# Altium integrated library Altera MAX 7000S.IntLib: 338 symbols (part 6 of 20)
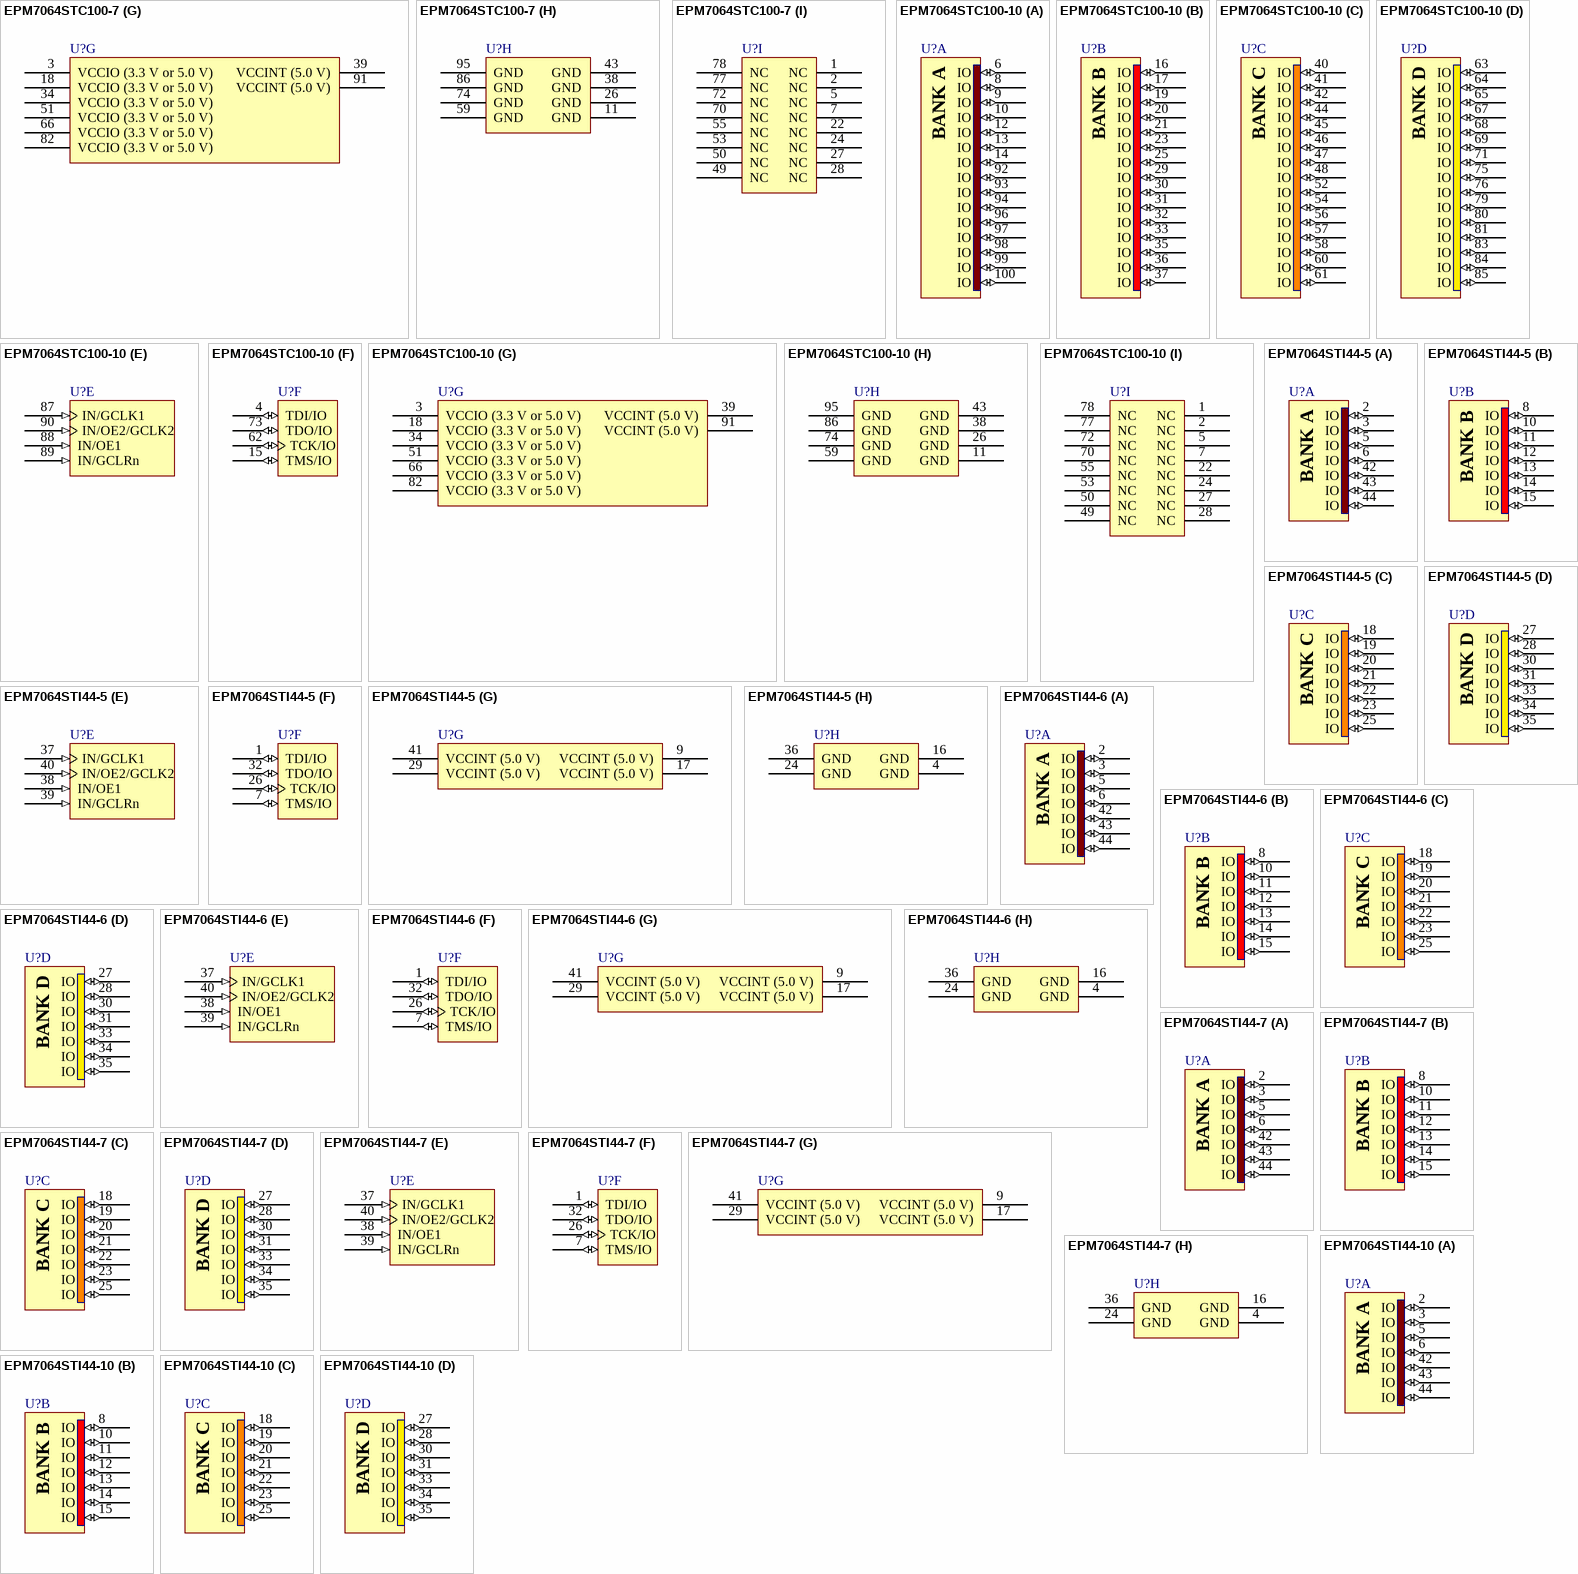
[diagram p109: symbols EPM7064STC100-7 to EPM7064STI44-10]

## EPM7064STC100-7
designator U?
MAX 7000S 5V In-System Programmable CPLD, 64 Macrocells, 100-Pin TQFP, Speed Grade 7, Commercial Grade; Published: 17-Jul-2002; LatestRevisionDate: 13-Apr-2006; LatestRevisionNote: IPC-7351 Footprint Added.; DatasheetVersion: ver6.7, Sep-2005; PackageVersion: ver15.1, May-2008; PackageReference: TQFP100; Publisher: Altium Limited; PackageDescription: 100-Pin Plastic Thin Quad Flat Pack (TQFP100) - Wire Bond; Supplier 1: Digi-Key; Supplier Part Number 1: 544-2312-ND; Code_JEDEC: MS-026-AED; ComponentLink1Description: Manufacturer Link; ComponentLink1URL: http://www.altera.com/products/devices/max7k/m7k-index.html; ComponentLink2Description: Datasheet; ComponentLink2URL: http://www.altera.com/literature/ds/m7000.pdf; ComponentLink3Description: Packaging Specification; ComponentLink3URL: http://www.altera.com/literature/ds/dspkg.pdf
footprint TQFP100_N (Thin QFP, 100-Leads, Body 14x14mm, Pitch 0.5mm, IPC Medium Density)
footprint TQFP100_L (Thin QFP, 100-Leads, Body 14x14mm, Pitch 0.5mm, IPC High Density)
footprint TQFP100_M (Thin QFP, 100-Leads, Body 14x14mm, Pitch 0.5mm, IPC Low Density)
3D model EPM7064S-TQFP100 (100-Pin Plastic Thin Quad Flat Pack (TQFP100) - Wire Bond)
signal-integrity model 7k (MAX 7000S)
part A pins: 6 IO (io), 8 IO (io), 9 IO (io), 10 IO (io), 12 IO (io), 13 IO (io), 14 IO (io), 92 IO (io), 93 IO (io), 94 IO (io), 96 IO (io), 97 IO (io), 98 IO (io), 99 IO (io), 100 IO (io)
part B pins: 16 IO (io), 17 IO (io), 19 IO (io), 20 IO (io), 21 IO (io), 23 IO (io), 25 IO (io), 29 IO (io), 30 IO (io), 31 IO (io), 32 IO (io), 33 IO (io), 35 IO (io), 36 IO (io), 37 IO (io)
part C pins: 40 IO (io), 41 IO (io), 42 IO (io), 44 IO (io), 45 IO (io), 46 IO (io), 47 IO (io), 48 IO (io), 52 IO (io), 54 IO (io), 56 IO (io), 57 IO (io), 58 IO (io), 60 IO (io), 61 IO (io)
part D pins: 63 IO (io), 64 IO (io), 65 IO (io), 67 IO (io), 68 IO (io), 69 IO (io), 71 IO (io), 75 IO (io), 76 IO (io), 79 IO (io), 80 IO (io), 81 IO (io), 83 IO (io), 84 IO (io), 85 IO (io)
part E pins: 87 IN/GCLK1 (in), 88 IN/OE1 (in), 89 IN/GCLRn (in), 90 IN/OE2/GCLK2 (in)
part F pins: 4 TDI/IO (io), 15 TMS/IO (io), 62 TCK/IO (io), 73 TDO/IO (io)
part G pins: 3 VCCIO (3.3 V or 5.0 V) (power), 18 VCCIO (3.3 V or 5.0 V) (power), 34 VCCIO (3.3 V or 5.0 V) (power), 39 VCCINT (5.0 V) (power), 51 VCCIO (3.3 V or 5.0 V) (power), 66 VCCIO (3.3 V or 5.0 V) (power), 82 VCCIO (3.3 V or 5.0 V) (power), 91 VCCINT (5.0 V) (power)
part H pins: 11 GND (power), 26 GND (power), 38 GND (power), 43 GND (power), 59 GND (power), 74 GND (power), 86 GND (power), 95 GND (power)
part I pins: 1 NC, 2 NC, 5 NC, 7 NC, 22 NC, 24 NC, 27 NC, 28 NC, 49 NC, 50 NC, 53 NC, 55 NC, 70 NC, 72 NC, 77 NC, 78 NC
part A text: BANK A
part B text: BANK B
part C text: BANK C
part D text: BANK D

## EPM7064STC100-10
designator U?
MAX 7000S 5V In-System Programmable CPLD, 64 Macrocells, 100-Pin TQFP, Speed Grade 10, Commercial Grade; Published: 17-Jul-2002; LatestRevisionDate: 13-Apr-2006; LatestRevisionNote: IPC-7351 Footprint Added.; DatasheetVersion: ver6.7, Sep-2005; PackageVersion: ver15.1, May-2008; PackageReference: TQFP100; Publisher: Altium Limited; PackageDescription: 100-Pin Plastic Thin Quad Flat Pack (TQFP100) - Wire Bond; Supplier 1: Digi-Key; Supplier Part Number 1: 544-1199-ND; Code_JEDEC: MS-026-AED; ComponentLink1Description: Manufacturer Link; ComponentLink1URL: http://www.altera.com/products/devices/max7k/m7k-index.html; ComponentLink2Description: Datasheet; ComponentLink2URL: http://www.altera.com/literature/ds/m7000.pdf; ComponentLink3Description: Packaging Specification; ComponentLink3URL: http://www.altera.com/literature/ds/dspkg.pdf
footprint TQFP100_N (Thin QFP, 100-Leads, Body 14x14mm, Pitch 0.5mm, IPC Medium Density)
footprint TQFP100_L (Thin QFP, 100-Leads, Body 14x14mm, Pitch 0.5mm, IPC High Density)
footprint TQFP100_M (Thin QFP, 100-Leads, Body 14x14mm, Pitch 0.5mm, IPC Low Density)
3D model EPM7064S-TQFP100 (100-Pin Plastic Thin Quad Flat Pack (TQFP100) - Wire Bond)
signal-integrity model 7k (MAX 7000S)
part A pins: 6 IO (io), 8 IO (io), 9 IO (io), 10 IO (io), 12 IO (io), 13 IO (io), 14 IO (io), 92 IO (io), 93 IO (io), 94 IO (io), 96 IO (io), 97 IO (io), 98 IO (io), 99 IO (io), 100 IO (io)
part B pins: 16 IO (io), 17 IO (io), 19 IO (io), 20 IO (io), 21 IO (io), 23 IO (io), 25 IO (io), 29 IO (io), 30 IO (io), 31 IO (io), 32 IO (io), 33 IO (io), 35 IO (io), 36 IO (io), 37 IO (io)
part C pins: 40 IO (io), 41 IO (io), 42 IO (io), 44 IO (io), 45 IO (io), 46 IO (io), 47 IO (io), 48 IO (io), 52 IO (io), 54 IO (io), 56 IO (io), 57 IO (io), 58 IO (io), 60 IO (io), 61 IO (io)
part D pins: 63 IO (io), 64 IO (io), 65 IO (io), 67 IO (io), 68 IO (io), 69 IO (io), 71 IO (io), 75 IO (io), 76 IO (io), 79 IO (io), 80 IO (io), 81 IO (io), 83 IO (io), 84 IO (io), 85 IO (io)
part E pins: 87 IN/GCLK1 (in), 88 IN/OE1 (in), 89 IN/GCLRn (in), 90 IN/OE2/GCLK2 (in)
part F pins: 4 TDI/IO (io), 15 TMS/IO (io), 62 TCK/IO (io), 73 TDO/IO (io)
part G pins: 3 VCCIO (3.3 V or 5.0 V) (power), 18 VCCIO (3.3 V or 5.0 V) (power), 34 VCCIO (3.3 V or 5.0 V) (power), 39 VCCINT (5.0 V) (power), 51 VCCIO (3.3 V or 5.0 V) (power), 66 VCCIO (3.3 V or 5.0 V) (power), 82 VCCIO (3.3 V or 5.0 V) (power), 91 VCCINT (5.0 V) (power)
part H pins: 11 GND (power), 26 GND (power), 38 GND (power), 43 GND (power), 59 GND (power), 74 GND (power), 86 GND (power), 95 GND (power)
part I pins: 1 NC, 2 NC, 5 NC, 7 NC, 22 NC, 24 NC, 27 NC, 28 NC, 49 NC, 50 NC, 53 NC, 55 NC, 70 NC, 72 NC, 77 NC, 78 NC
part A text: BANK A
part B text: BANK B
part C text: BANK C
part D text: BANK D

## EPM7064STI44-5
designator U?
MAX 7000S 5V In-System Programmable CPLD, 64 Macrocells, 44-Pin TQFP, Speed Grade 5, Industrial Grade; Published: 17-Sep-2003; LatestRevisionDate: 13-Apr-2006; LatestRevisionNote: IPC-7351 Footprint Added.; DatasheetVersion: ver6.7, Sep-2005; PackageVersion: ver14.3, Jul-2006; PackageReference: TQFP44; Publisher: Altium Limited; PackageDescription: 44-Pin Plastic Thin Quad Flat Pack (TFQP44); Code_JEDEC: MS-026-ACB; ComponentLink1Description: Manufacturer Link; ComponentLink1URL: http://www.altera.com/products/devices/max7k/m7k-index.html; ComponentLink2Description: Datasheet; ComponentLink2URL: http://www.altera.com/literature/ds/m7000.pdf; ComponentLink3Description: Packaging Specification; ComponentLink3URL: http://www.altera.com/literature/ds/dspkg.pdf
footprint TQFP44_N (Thin QFP, 44-Leads, Body 10x10mm, Pitch 0.8mm, IPC Medium Density)
footprint TQFP44_L (Thin QFP, 44-Leads, Body 10x10mm, Pitch 0.8mm, IPC High Density)
footprint TQFP44_M (Thin QFP, 44-Leads, Body 10x10mm, Pitch 0.8mm, IPC Low Density)
3D model EPM7064S-TQFP44 (44-Pin Plastic Thin Quad Flat Pack (TFQP44))
signal-integrity model 7k (MAX 7000S)
part A pins: 2 IO (io), 3 IO (io), 5 IO (io), 6 IO (io), 42 IO (io), 43 IO (io), 44 IO (io)
part B pins: 8 IO (io), 10 IO (io), 11 IO (io), 12 IO (io), 13 IO (io), 14 IO (io), 15 IO (io)
part C pins: 18 IO (io), 19 IO (io), 20 IO (io), 21 IO (io), 22 IO (io), 23 IO (io), 25 IO (io)
part D pins: 27 IO (io), 28 IO (io), 30 IO (io), 31 IO (io), 33 IO (io), 34 IO (io), 35 IO (io)
part E pins: 37 IN/GCLK1 (in), 38 IN/OE1 (in), 39 IN/GCLRn (in), 40 IN/OE2/GCLK2 (in)
part F pins: 1 TDI/IO (io), 7 TMS/IO (io), 26 TCK/IO (io), 32 TDO/IO (io)
part G pins: 9 VCCINT (5.0 V) (power), 17 VCCINT (5.0 V) (power), 29 VCCINT (5.0 V) (power), 41 VCCINT (5.0 V) (power)
part H pins: 4 GND (power), 16 GND (power), 24 GND (power), 36 GND (power)
part A text: BANK A
part B text: BANK B
part C text: BANK C
part D text: BANK D

## EPM7064STI44-6
designator U?
MAX 7000S 5V In-System Programmable CPLD, 64 Macrocells, 44-Pin TQFP, Speed Grade 6, Industrial Grade; Published: 17-Sep-2003; LatestRevisionDate: 13-Apr-2006; LatestRevisionNote: IPC-7351 Footprint Added.; DatasheetVersion: ver6.7, Sep-2005; PackageVersion: ver14.3, Jul-2006; PackageReference: TQFP44; Publisher: Altium Limited; PackageDescription: 44-Pin Plastic Thin Quad Flat Pack (TFQP44); Code_JEDEC: MS-026-ACB; ComponentLink1Description: Manufacturer Link; ComponentLink1URL: http://www.altera.com/products/devices/max7k/m7k-index.html; ComponentLink2Description: Datasheet; ComponentLink2URL: http://www.altera.com/literature/ds/m7000.pdf; ComponentLink3Description: Packaging Specification; ComponentLink3URL: http://www.altera.com/literature/ds/dspkg.pdf
footprint TQFP44_N (Thin QFP, 44-Leads, Body 10x10mm, Pitch 0.8mm, IPC Medium Density)
footprint TQFP44_L (Thin QFP, 44-Leads, Body 10x10mm, Pitch 0.8mm, IPC High Density)
footprint TQFP44_M (Thin QFP, 44-Leads, Body 10x10mm, Pitch 0.8mm, IPC Low Density)
3D model EPM7064S-TQFP44 (44-Pin Plastic Thin Quad Flat Pack (TFQP44))
signal-integrity model 7k (MAX 7000S)
part A pins: 2 IO (io), 3 IO (io), 5 IO (io), 6 IO (io), 42 IO (io), 43 IO (io), 44 IO (io)
part B pins: 8 IO (io), 10 IO (io), 11 IO (io), 12 IO (io), 13 IO (io), 14 IO (io), 15 IO (io)
part C pins: 18 IO (io), 19 IO (io), 20 IO (io), 21 IO (io), 22 IO (io), 23 IO (io), 25 IO (io)
part D pins: 27 IO (io), 28 IO (io), 30 IO (io), 31 IO (io), 33 IO (io), 34 IO (io), 35 IO (io)
part E pins: 37 IN/GCLK1 (in), 38 IN/OE1 (in), 39 IN/GCLRn (in), 40 IN/OE2/GCLK2 (in)
part F pins: 1 TDI/IO (io), 7 TMS/IO (io), 26 TCK/IO (io), 32 TDO/IO (io)
part G pins: 9 VCCINT (5.0 V) (power), 17 VCCINT (5.0 V) (power), 29 VCCINT (5.0 V) (power), 41 VCCINT (5.0 V) (power)
part H pins: 4 GND (power), 16 GND (power), 24 GND (power), 36 GND (power)
part A text: BANK A
part B text: BANK B
part C text: BANK C
part D text: BANK D

## EPM7064STI44-7
designator U?
MAX 7000S 5V In-System Programmable CPLD, 64 Macrocells, 44-Pin TQFP, Speed Grade 7, Industrial Grade; Published: 17-Jul-2002; LatestRevisionDate: 13-Apr-2006; LatestRevisionNote: IPC-7351 Footprint Added.; DatasheetVersion: ver6.7, Sep-2005; PackageVersion: ver14.3, Jul-2006; PackageReference: TQFP44; Publisher: Altium Limited; PackageDescription: 44-Pin Plastic Thin Quad Flat Pack (TFQP44); Supplier 1: Digi-Key; Supplier Part Number 1: 544-2023-ND; Code_JEDEC: MS-026-ACB; ComponentLink1Description: Manufacturer Link; ComponentLink1URL: http://www.altera.com/products/devices/max7k/m7k-index.html; ComponentLink2Description: Datasheet; ComponentLink2URL: http://www.altera.com/literature/ds/m7000.pdf; ComponentLink3Description: Packaging Specification; ComponentLink3URL: http://www.altera.com/literature/ds/dspkg.pdf
footprint TQFP44_N (Thin QFP, 44-Leads, Body 10x10mm, Pitch 0.8mm, IPC Medium Density)
footprint TQFP44_L (Thin QFP, 44-Leads, Body 10x10mm, Pitch 0.8mm, IPC High Density)
footprint TQFP44_M (Thin QFP, 44-Leads, Body 10x10mm, Pitch 0.8mm, IPC Low Density)
3D model EPM7064S-TQFP44 (44-Pin Plastic Thin Quad Flat Pack (TFQP44))
signal-integrity model 7k (MAX 7000S)
part A pins: 2 IO (io), 3 IO (io), 5 IO (io), 6 IO (io), 42 IO (io), 43 IO (io), 44 IO (io)
part B pins: 8 IO (io), 10 IO (io), 11 IO (io), 12 IO (io), 13 IO (io), 14 IO (io), 15 IO (io)
part C pins: 18 IO (io), 19 IO (io), 20 IO (io), 21 IO (io), 22 IO (io), 23 IO (io), 25 IO (io)
part D pins: 27 IO (io), 28 IO (io), 30 IO (io), 31 IO (io), 33 IO (io), 34 IO (io), 35 IO (io)
part E pins: 37 IN/GCLK1 (in), 38 IN/OE1 (in), 39 IN/GCLRn (in), 40 IN/OE2/GCLK2 (in)
part F pins: 1 TDI/IO (io), 7 TMS/IO (io), 26 TCK/IO (io), 32 TDO/IO (io)
part G pins: 9 VCCINT (5.0 V) (power), 17 VCCINT (5.0 V) (power), 29 VCCINT (5.0 V) (power), 41 VCCINT (5.0 V) (power)
part H pins: 4 GND (power), 16 GND (power), 24 GND (power), 36 GND (power)
part A text: BANK A
part B text: BANK B
part C text: BANK C
part D text: BANK D

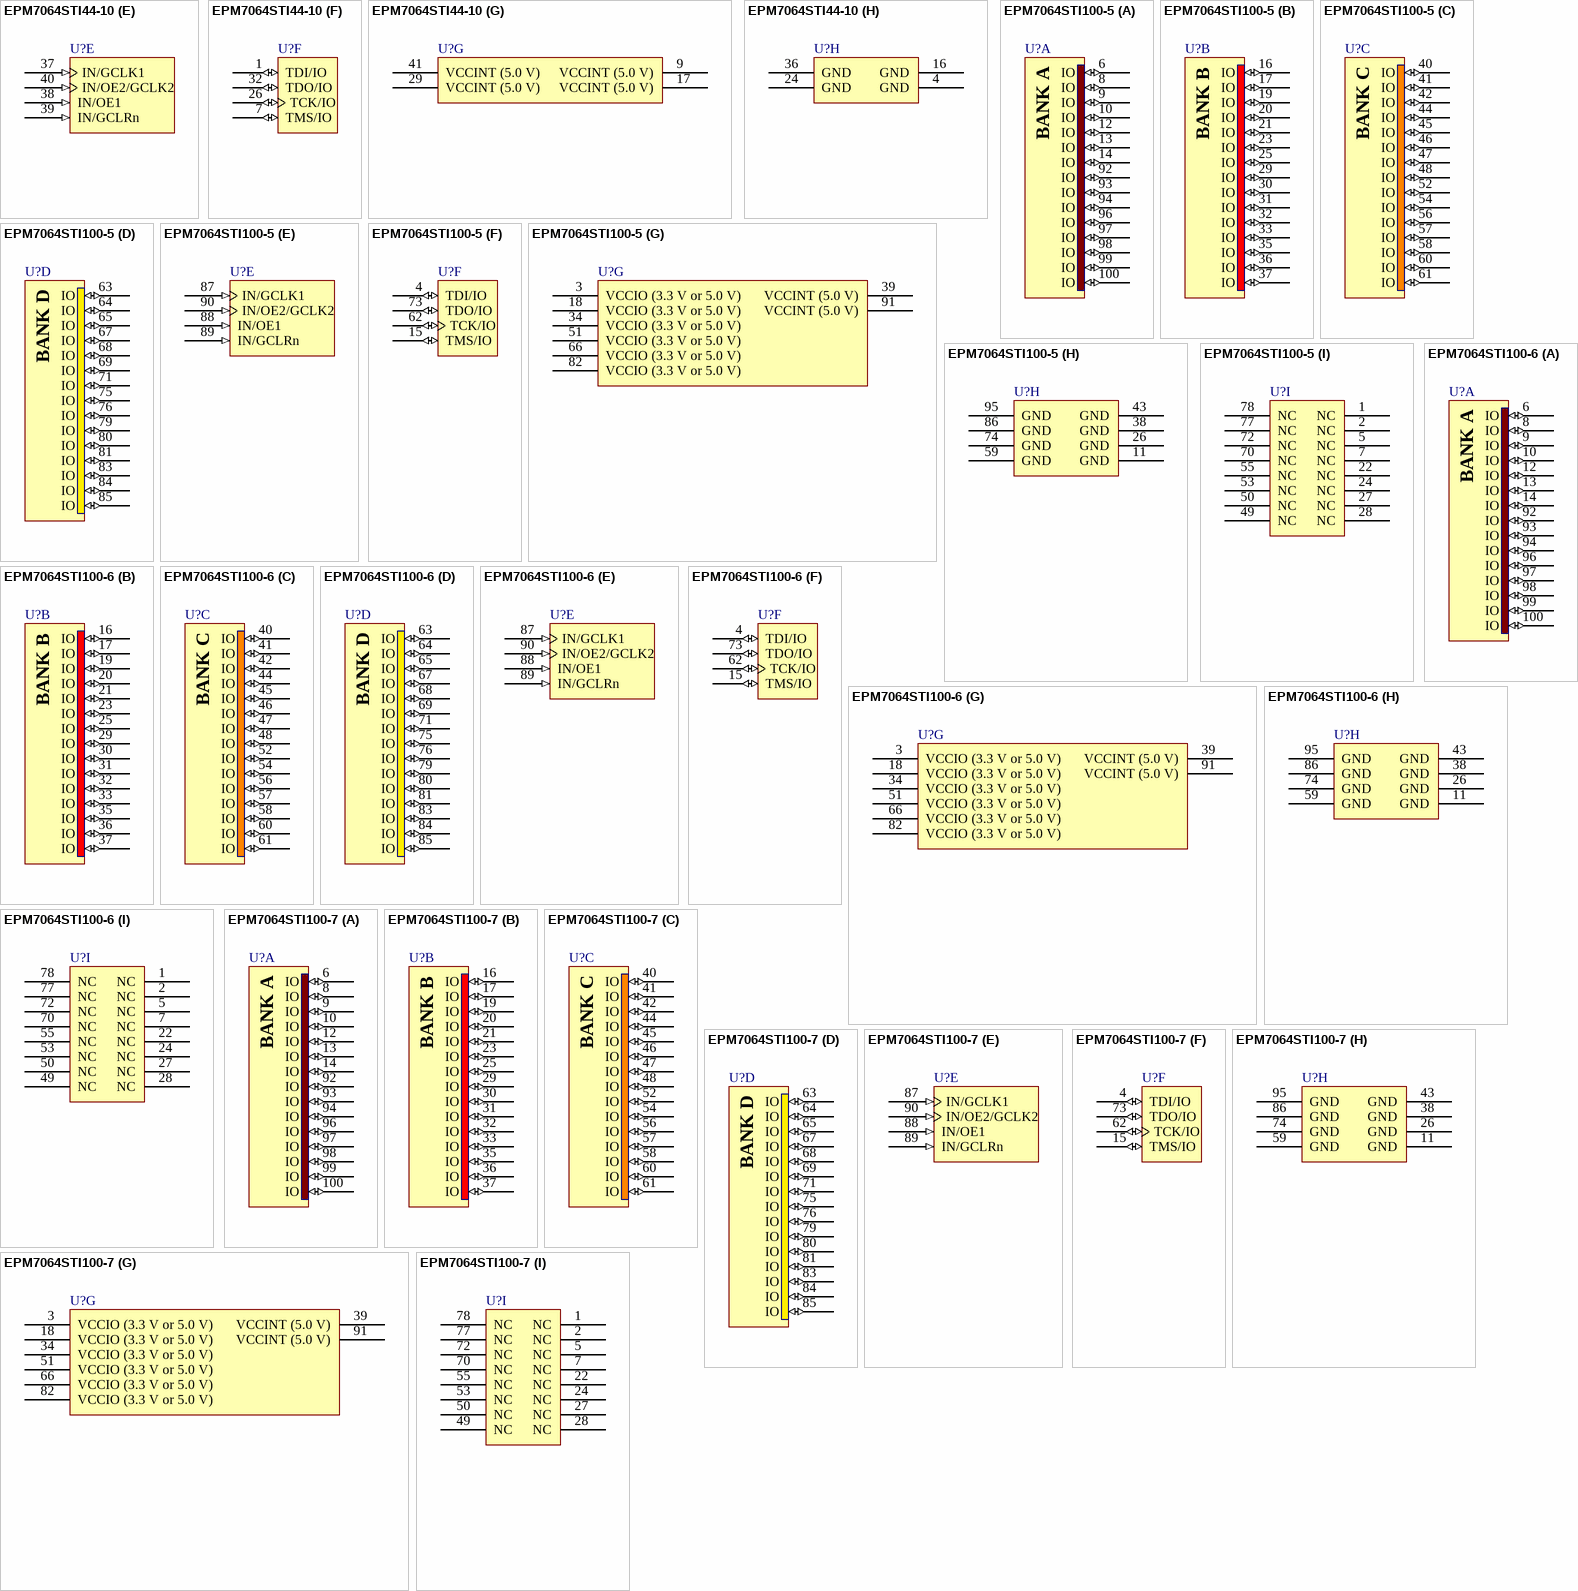
[diagram p25: symbols EPM7064STI44-10 to EPM7064STI100-7]

## EPM7064STI44-10
designator U?
MAX 7000S 5V In-System Programmable CPLD, 64 Macrocells, 44-Pin TQFP, Speed Grade 10, Industrial Grade; Published: 24-Nov-2000; LatestRevisionDate: 13-Apr-2006; LatestRevisionNote: IPC-7351 Footprint Added.; DatasheetVersion: ver6.7, Sep-2005; PackageVersion: ver14.3, Jul-2006; PackageReference: TQFP44; Publisher: Altium Limited; PackageDescription: 44-Pin Plastic Thin Quad Flat Pack (TFQP44); Code_JEDEC: MS-026-ACB; ComponentLink1Description: Manufacturer Link; ComponentLink1URL: http://www.altera.com/products/devices/max7k/m7k-index.html; ComponentLink2Description: Datasheet; ComponentLink2URL: http://www.altera.com/literature/ds/m7000.pdf; ComponentLink3Description: Packaging Specification; ComponentLink3URL: http://www.altera.com/literature/ds/dspkg.pdf
footprint TQFP44_N (Thin QFP, 44-Leads, Body 10x10mm, Pitch 0.8mm, IPC Medium Density)
footprint TQFP44_L (Thin QFP, 44-Leads, Body 10x10mm, Pitch 0.8mm, IPC High Density)
footprint TQFP44_M (Thin QFP, 44-Leads, Body 10x10mm, Pitch 0.8mm, IPC Low Density)
3D model EPM7064S-TQFP44 (44-Pin Plastic Thin Quad Flat Pack (TFQP44))
signal-integrity model 7k (MAX 7000S)
part A pins: 2 IO (io), 3 IO (io), 5 IO (io), 6 IO (io), 42 IO (io), 43 IO (io), 44 IO (io)
part B pins: 8 IO (io), 10 IO (io), 11 IO (io), 12 IO (io), 13 IO (io), 14 IO (io), 15 IO (io)
part C pins: 18 IO (io), 19 IO (io), 20 IO (io), 21 IO (io), 22 IO (io), 23 IO (io), 25 IO (io)
part D pins: 27 IO (io), 28 IO (io), 30 IO (io), 31 IO (io), 33 IO (io), 34 IO (io), 35 IO (io)
part E pins: 37 IN/GCLK1 (in), 38 IN/OE1 (in), 39 IN/GCLRn (in), 40 IN/OE2/GCLK2 (in)
part F pins: 1 TDI/IO (io), 7 TMS/IO (io), 26 TCK/IO (io), 32 TDO/IO (io)
part G pins: 9 VCCINT (5.0 V) (power), 17 VCCINT (5.0 V) (power), 29 VCCINT (5.0 V) (power), 41 VCCINT (5.0 V) (power)
part H pins: 4 GND (power), 16 GND (power), 24 GND (power), 36 GND (power)
part A text: BANK A
part B text: BANK B
part C text: BANK C
part D text: BANK D

## EPM7064STI100-5
designator U?
MAX 7000S 5V In-System Programmable CPLD, 64 Macrocells, 100-Pin TQFP, Speed Grade 5, Industrial Grade; Published: 17-Sep-2003; LatestRevisionDate: 13-Apr-2006; LatestRevisionNote: IPC-7351 Footprint Added.; DatasheetVersion: ver6.7, Sep-2005; PackageVersion: ver15.1, May-2008; PackageReference: TQFP100; Publisher: Altium Limited; PackageDescription: 100-Pin Plastic Thin Quad Flat Pack (TQFP100) - Wire Bond; Code_JEDEC: MS-026-AED; ComponentLink1Description: Manufacturer Link; ComponentLink1URL: http://www.altera.com/products/devices/max7k/m7k-index.html; ComponentLink2Description: Datasheet; ComponentLink2URL: http://www.altera.com/literature/ds/m7000.pdf; ComponentLink3Description: Packaging Specification; ComponentLink3URL: http://www.altera.com/literature/ds/dspkg.pdf
footprint TQFP100_N (Thin QFP, 100-Leads, Body 14x14mm, Pitch 0.5mm, IPC Medium Density)
footprint TQFP100_L (Thin QFP, 100-Leads, Body 14x14mm, Pitch 0.5mm, IPC High Density)
footprint TQFP100_M (Thin QFP, 100-Leads, Body 14x14mm, Pitch 0.5mm, IPC Low Density)
3D model EPM7064S-TQFP100 (100-Pin Plastic Thin Quad Flat Pack (TQFP100) - Wire Bond)
signal-integrity model 7k (MAX 7000S)
part A pins: 6 IO (io), 8 IO (io), 9 IO (io), 10 IO (io), 12 IO (io), 13 IO (io), 14 IO (io), 92 IO (io), 93 IO (io), 94 IO (io), 96 IO (io), 97 IO (io), 98 IO (io), 99 IO (io), 100 IO (io)
part B pins: 16 IO (io), 17 IO (io), 19 IO (io), 20 IO (io), 21 IO (io), 23 IO (io), 25 IO (io), 29 IO (io), 30 IO (io), 31 IO (io), 32 IO (io), 33 IO (io), 35 IO (io), 36 IO (io), 37 IO (io)
part C pins: 40 IO (io), 41 IO (io), 42 IO (io), 44 IO (io), 45 IO (io), 46 IO (io), 47 IO (io), 48 IO (io), 52 IO (io), 54 IO (io), 56 IO (io), 57 IO (io), 58 IO (io), 60 IO (io), 61 IO (io)
part D pins: 63 IO (io), 64 IO (io), 65 IO (io), 67 IO (io), 68 IO (io), 69 IO (io), 71 IO (io), 75 IO (io), 76 IO (io), 79 IO (io), 80 IO (io), 81 IO (io), 83 IO (io), 84 IO (io), 85 IO (io)
part E pins: 87 IN/GCLK1 (in), 88 IN/OE1 (in), 89 IN/GCLRn (in), 90 IN/OE2/GCLK2 (in)
part F pins: 4 TDI/IO (io), 15 TMS/IO (io), 62 TCK/IO (io), 73 TDO/IO (io)
part G pins: 3 VCCIO (3.3 V or 5.0 V) (power), 18 VCCIO (3.3 V or 5.0 V) (power), 34 VCCIO (3.3 V or 5.0 V) (power), 39 VCCINT (5.0 V) (power), 51 VCCIO (3.3 V or 5.0 V) (power), 66 VCCIO (3.3 V or 5.0 V) (power), 82 VCCIO (3.3 V or 5.0 V) (power), 91 VCCINT (5.0 V) (power)
part H pins: 11 GND (power), 26 GND (power), 38 GND (power), 43 GND (power), 59 GND (power), 74 GND (power), 86 GND (power), 95 GND (power)
part I pins: 1 NC, 2 NC, 5 NC, 7 NC, 22 NC, 24 NC, 27 NC, 28 NC, 49 NC, 50 NC, 53 NC, 55 NC, 70 NC, 72 NC, 77 NC, 78 NC
part A text: BANK A
part B text: BANK B
part C text: BANK C
part D text: BANK D

## EPM7064STI100-6
designator U?
MAX 7000S 5V In-System Programmable CPLD, 64 Macrocells, 100-Pin TQFP, Speed Grade 6, Industrial Grade; Published: 17-Sep-2003; LatestRevisionDate: 13-Apr-2006; LatestRevisionNote: IPC-7351 Footprint Added.; DatasheetVersion: ver6.7, Sep-2005; PackageVersion: ver15.1, May-2008; PackageReference: TQFP100; Publisher: Altium Limited; PackageDescription: 100-Pin Plastic Thin Quad Flat Pack (TQFP100) - Wire Bond; Code_JEDEC: MS-026-AED; ComponentLink1Description: Manufacturer Link; ComponentLink1URL: http://www.altera.com/products/devices/max7k/m7k-index.html; ComponentLink2Description: Datasheet; ComponentLink2URL: http://www.altera.com/literature/ds/m7000.pdf; ComponentLink3Description: Packaging Specification; ComponentLink3URL: http://www.altera.com/literature/ds/dspkg.pdf
footprint TQFP100_N (Thin QFP, 100-Leads, Body 14x14mm, Pitch 0.5mm, IPC Medium Density)
footprint TQFP100_L (Thin QFP, 100-Leads, Body 14x14mm, Pitch 0.5mm, IPC High Density)
footprint TQFP100_M (Thin QFP, 100-Leads, Body 14x14mm, Pitch 0.5mm, IPC Low Density)
3D model EPM7064S-TQFP100 (100-Pin Plastic Thin Quad Flat Pack (TQFP100) - Wire Bond)
signal-integrity model 7k (MAX 7000S)
part A pins: 6 IO (io), 8 IO (io), 9 IO (io), 10 IO (io), 12 IO (io), 13 IO (io), 14 IO (io), 92 IO (io), 93 IO (io), 94 IO (io), 96 IO (io), 97 IO (io), 98 IO (io), 99 IO (io), 100 IO (io)
part B pins: 16 IO (io), 17 IO (io), 19 IO (io), 20 IO (io), 21 IO (io), 23 IO (io), 25 IO (io), 29 IO (io), 30 IO (io), 31 IO (io), 32 IO (io), 33 IO (io), 35 IO (io), 36 IO (io), 37 IO (io)
part C pins: 40 IO (io), 41 IO (io), 42 IO (io), 44 IO (io), 45 IO (io), 46 IO (io), 47 IO (io), 48 IO (io), 52 IO (io), 54 IO (io), 56 IO (io), 57 IO (io), 58 IO (io), 60 IO (io), 61 IO (io)
part D pins: 63 IO (io), 64 IO (io), 65 IO (io), 67 IO (io), 68 IO (io), 69 IO (io), 71 IO (io), 75 IO (io), 76 IO (io), 79 IO (io), 80 IO (io), 81 IO (io), 83 IO (io), 84 IO (io), 85 IO (io)
part E pins: 87 IN/GCLK1 (in), 88 IN/OE1 (in), 89 IN/GCLRn (in), 90 IN/OE2/GCLK2 (in)
part F pins: 4 TDI/IO (io), 15 TMS/IO (io), 62 TCK/IO (io), 73 TDO/IO (io)
part G pins: 3 VCCIO (3.3 V or 5.0 V) (power), 18 VCCIO (3.3 V or 5.0 V) (power), 34 VCCIO (3.3 V or 5.0 V) (power), 39 VCCINT (5.0 V) (power), 51 VCCIO (3.3 V or 5.0 V) (power), 66 VCCIO (3.3 V or 5.0 V) (power), 82 VCCIO (3.3 V or 5.0 V) (power), 91 VCCINT (5.0 V) (power)
part H pins: 11 GND (power), 26 GND (power), 38 GND (power), 43 GND (power), 59 GND (power), 74 GND (power), 86 GND (power), 95 GND (power)
part I pins: 1 NC, 2 NC, 5 NC, 7 NC, 22 NC, 24 NC, 27 NC, 28 NC, 49 NC, 50 NC, 53 NC, 55 NC, 70 NC, 72 NC, 77 NC, 78 NC
part A text: BANK A
part B text: BANK B
part C text: BANK C
part D text: BANK D

## EPM7064STI100-7
designator U?
MAX 7000S 5V In-System Programmable CPLD, 64 Macrocells, 100-Pin TQFP, Speed Grade 7, Industrial Grade; Published: 17-Jul-2002; LatestRevisionDate: 13-Apr-2006; LatestRevisionNote: IPC-7351 Footprint Added.; DatasheetVersion: ver6.7, Sep-2005; PackageVersion: ver15.1, May-2008; PackageReference: TQFP100; Publisher: Altium Limited; PackageDescription: 100-Pin Plastic Thin Quad Flat Pack (TQFP100) - Wire Bond; Supplier 1: Digi-Key; Supplier Part Number 1: 544-2314-ND; Code_JEDEC: MS-026-AED; ComponentLink1Description: Manufacturer Link; ComponentLink1URL: http://www.altera.com/products/devices/max7k/m7k-index.html; ComponentLink2Description: Datasheet; ComponentLink2URL: http://www.altera.com/literature/ds/m7000.pdf; ComponentLink3Description: Packaging Specification; ComponentLink3URL: http://www.altera.com/literature/ds/dspkg.pdf
footprint TQFP100_N (Thin QFP, 100-Leads, Body 14x14mm, Pitch 0.5mm, IPC Medium Density)
footprint TQFP100_L (Thin QFP, 100-Leads, Body 14x14mm, Pitch 0.5mm, IPC High Density)
footprint TQFP100_M (Thin QFP, 100-Leads, Body 14x14mm, Pitch 0.5mm, IPC Low Density)
3D model EPM7064S-TQFP100 (100-Pin Plastic Thin Quad Flat Pack (TQFP100) - Wire Bond)
signal-integrity model 7k (MAX 7000S)
part A pins: 6 IO (io), 8 IO (io), 9 IO (io), 10 IO (io), 12 IO (io), 13 IO (io), 14 IO (io), 92 IO (io), 93 IO (io), 94 IO (io), 96 IO (io), 97 IO (io), 98 IO (io), 99 IO (io), 100 IO (io)
part B pins: 16 IO (io), 17 IO (io), 19 IO (io), 20 IO (io), 21 IO (io), 23 IO (io), 25 IO (io), 29 IO (io), 30 IO (io), 31 IO (io), 32 IO (io), 33 IO (io), 35 IO (io), 36 IO (io), 37 IO (io)
part C pins: 40 IO (io), 41 IO (io), 42 IO (io), 44 IO (io), 45 IO (io), 46 IO (io), 47 IO (io), 48 IO (io), 52 IO (io), 54 IO (io), 56 IO (io), 57 IO (io), 58 IO (io), 60 IO (io), 61 IO (io)
part D pins: 63 IO (io), 64 IO (io), 65 IO (io), 67 IO (io), 68 IO (io), 69 IO (io), 71 IO (io), 75 IO (io), 76 IO (io), 79 IO (io), 80 IO (io), 81 IO (io), 83 IO (io), 84 IO (io), 85 IO (io)
part E pins: 87 IN/GCLK1 (in), 88 IN/OE1 (in), 89 IN/GCLRn (in), 90 IN/OE2/GCLK2 (in)
part F pins: 4 TDI/IO (io), 15 TMS/IO (io), 62 TCK/IO (io), 73 TDO/IO (io)
part G pins: 3 VCCIO (3.3 V or 5.0 V) (power), 18 VCCIO (3.3 V or 5.0 V) (power), 34 VCCIO (3.3 V or 5.0 V) (power), 39 VCCINT (5.0 V) (power), 51 VCCIO (3.3 V or 5.0 V) (power), 66 VCCIO (3.3 V or 5.0 V) (power), 82 VCCIO (3.3 V or 5.0 V) (power), 91 VCCINT (5.0 V) (power)
part H pins: 11 GND (power), 26 GND (power), 38 GND (power), 43 GND (power), 59 GND (power), 74 GND (power), 86 GND (power), 95 GND (power)
part I pins: 1 NC, 2 NC, 5 NC, 7 NC, 22 NC, 24 NC, 27 NC, 28 NC, 49 NC, 50 NC, 53 NC, 55 NC, 70 NC, 72 NC, 77 NC, 78 NC
part A text: BANK A
part B text: BANK B
part C text: BANK C
part D text: BANK D

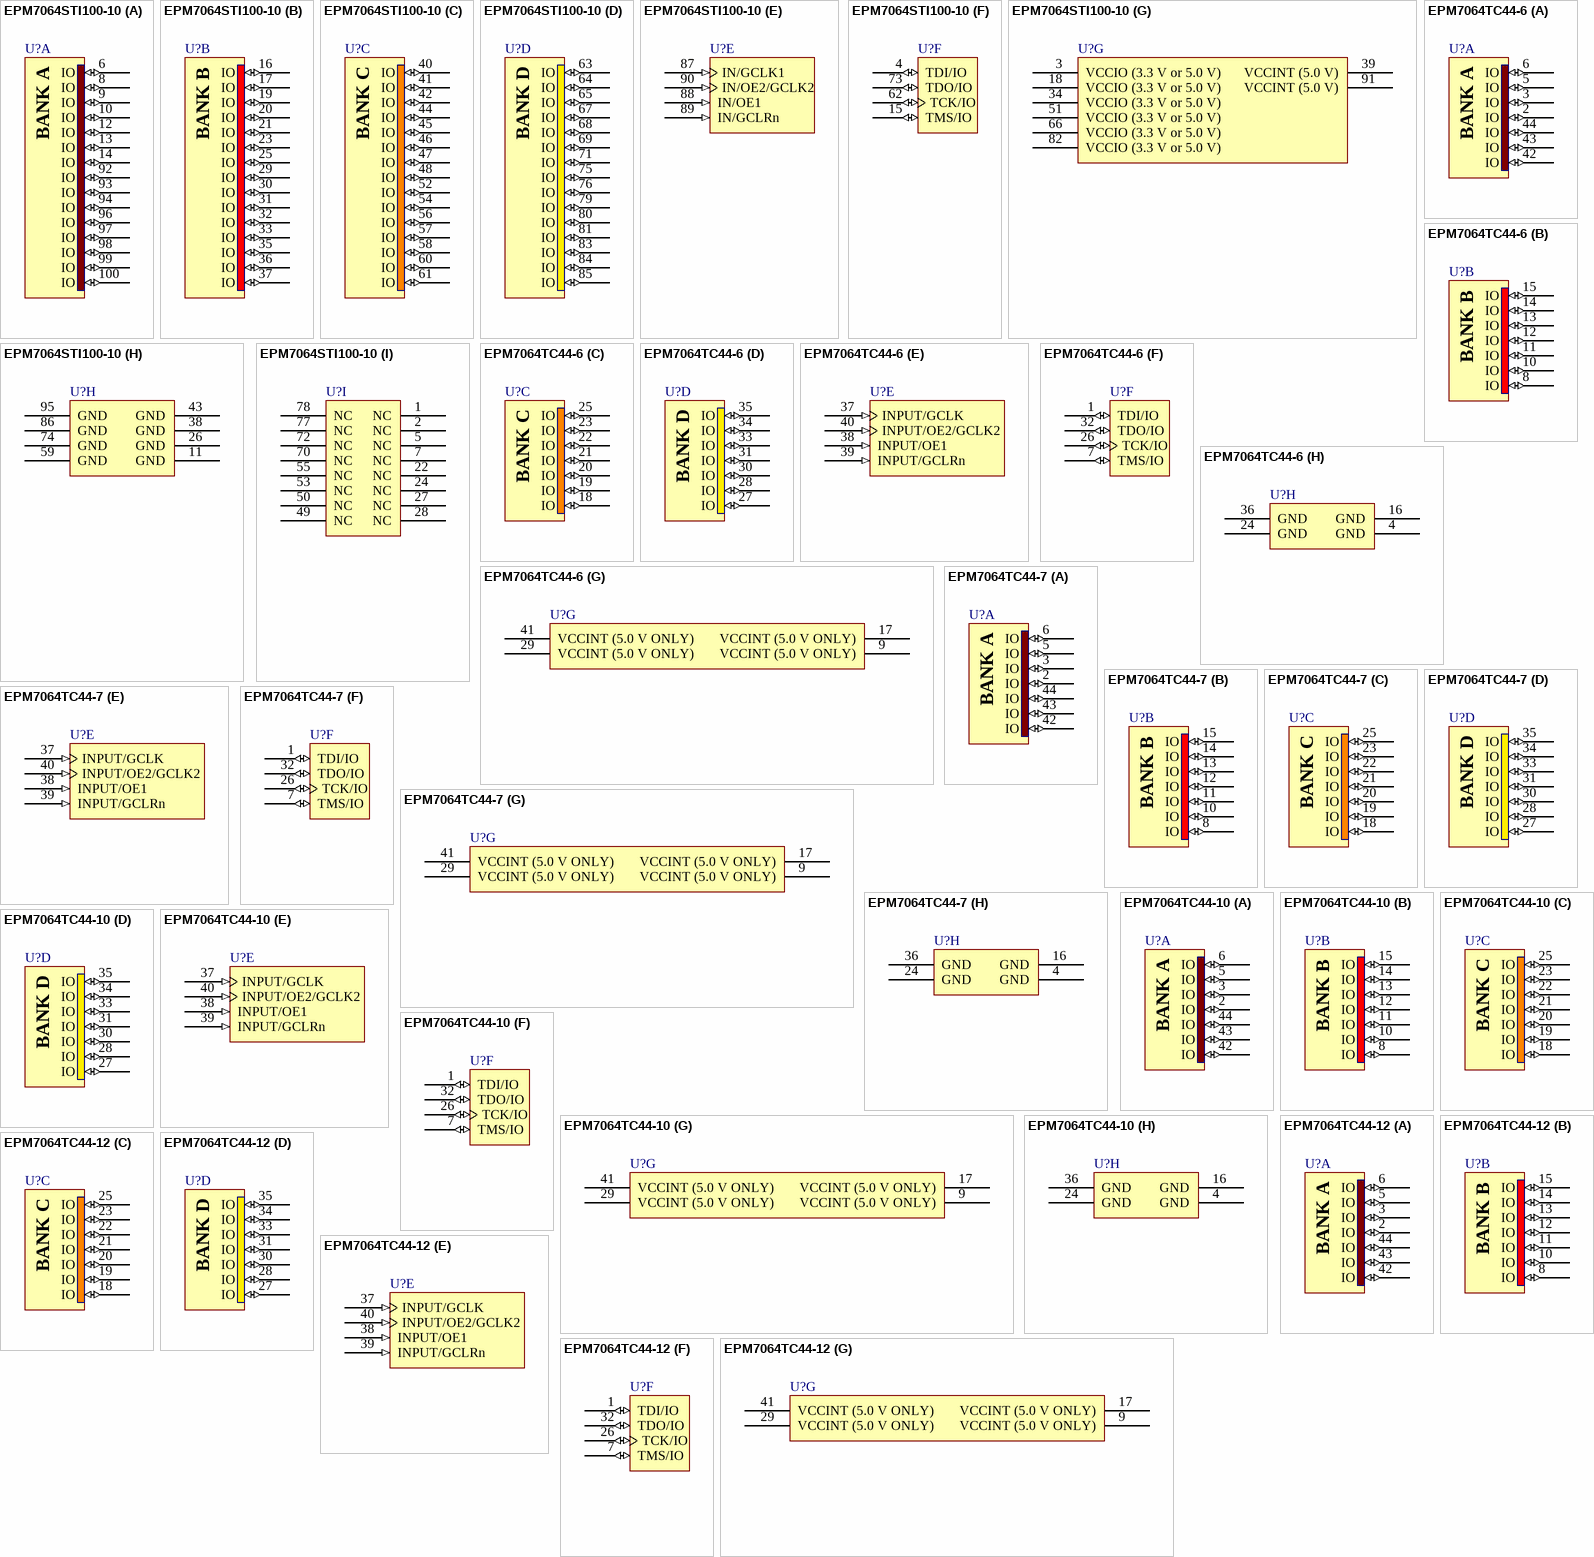
[diagram p26: symbols EPM7064STI100-10 to EPM7064TC44-12]

## EPM7064STI100-10
designator U?
MAX 7000S 5V In-System Programmable CPLD, 64 Macrocells, 100-Pin TQFP, Speed Grade 10, Industrial Grade; Published: 17-Sep-2003; LatestRevisionDate: 13-Apr-2006; LatestRevisionNote: IPC-7351 Footprint Added.; DatasheetVersion: ver6.7, Sep-2005; PackageVersion: ver15.1, May-2008; PackageReference: TQFP100; Publisher: Altium Limited; PackageDescription: 100-Pin Plastic Thin Quad Flat Pack (TQFP100) - Wire Bond; Code_JEDEC: MS-026-AED; ComponentLink1Description: Manufacturer Link; ComponentLink1URL: http://www.altera.com/products/devices/max7k/m7k-index.html; ComponentLink2Description: Datasheet; ComponentLink2URL: http://www.altera.com/literature/ds/m7000.pdf; ComponentLink3Description: Packaging Specification; ComponentLink3URL: http://www.altera.com/literature/ds/dspkg.pdf
footprint TQFP100_N (Thin QFP, 100-Leads, Body 14x14mm, Pitch 0.5mm, IPC Medium Density)
footprint TQFP100_L (Thin QFP, 100-Leads, Body 14x14mm, Pitch 0.5mm, IPC High Density)
footprint TQFP100_M (Thin QFP, 100-Leads, Body 14x14mm, Pitch 0.5mm, IPC Low Density)
3D model EPM7064S-TQFP100 (100-Pin Plastic Thin Quad Flat Pack (TQFP100) - Wire Bond)
signal-integrity model 7k (MAX 7000S)
part A pins: 6 IO (io), 8 IO (io), 9 IO (io), 10 IO (io), 12 IO (io), 13 IO (io), 14 IO (io), 92 IO (io), 93 IO (io), 94 IO (io), 96 IO (io), 97 IO (io), 98 IO (io), 99 IO (io), 100 IO (io)
part B pins: 16 IO (io), 17 IO (io), 19 IO (io), 20 IO (io), 21 IO (io), 23 IO (io), 25 IO (io), 29 IO (io), 30 IO (io), 31 IO (io), 32 IO (io), 33 IO (io), 35 IO (io), 36 IO (io), 37 IO (io)
part C pins: 40 IO (io), 41 IO (io), 42 IO (io), 44 IO (io), 45 IO (io), 46 IO (io), 47 IO (io), 48 IO (io), 52 IO (io), 54 IO (io), 56 IO (io), 57 IO (io), 58 IO (io), 60 IO (io), 61 IO (io)
part D pins: 63 IO (io), 64 IO (io), 65 IO (io), 67 IO (io), 68 IO (io), 69 IO (io), 71 IO (io), 75 IO (io), 76 IO (io), 79 IO (io), 80 IO (io), 81 IO (io), 83 IO (io), 84 IO (io), 85 IO (io)
part E pins: 87 IN/GCLK1 (in), 88 IN/OE1 (in), 89 IN/GCLRn (in), 90 IN/OE2/GCLK2 (in)
part F pins: 4 TDI/IO (io), 15 TMS/IO (io), 62 TCK/IO (io), 73 TDO/IO (io)
part G pins: 3 VCCIO (3.3 V or 5.0 V) (power), 18 VCCIO (3.3 V or 5.0 V) (power), 34 VCCIO (3.3 V or 5.0 V) (power), 39 VCCINT (5.0 V) (power), 51 VCCIO (3.3 V or 5.0 V) (power), 66 VCCIO (3.3 V or 5.0 V) (power), 82 VCCIO (3.3 V or 5.0 V) (power), 91 VCCINT (5.0 V) (power)
part H pins: 11 GND (power), 26 GND (power), 38 GND (power), 43 GND (power), 59 GND (power), 74 GND (power), 86 GND (power), 95 GND (power)
part I pins: 1 NC, 2 NC, 5 NC, 7 NC, 22 NC, 24 NC, 27 NC, 28 NC, 49 NC, 50 NC, 53 NC, 55 NC, 70 NC, 72 NC, 77 NC, 78 NC
part A text: BANK A
part B text: BANK B
part C text: BANK C
part D text: BANK D

## EPM7064TC44-6
designator U?
MAX 7000 5V CPLD, 64 Macrocells, 44-Pin TQFP, Speed Grade 6, Commercial Grade; Published: 24-Nov-2000; LatestRevisionDate: 13-Apr-2006; LatestRevisionNote: IPC-7351 Footprint Added.; DatasheetVersion: ver6.7, Sep-2005; PackageVersion: ver14.3, Jul-2006; PackageReference: TQFP44; Publisher: Altium Limited; PackageDescription: 44-Pin Plastic Thin Quad Flat Pack (TFQP44); Code_JEDEC: MS-026-ACB; ComponentLink1Description: Manufacturer Link; ComponentLink1URL: http://www.altera.com/products/devices/max7k/m7k-index.html; ComponentLink2Description: Datasheet; ComponentLink2URL: http://www.altera.com/literature/ds/m7000.pdf; ComponentLink3Description: Packaging Specification; ComponentLink3URL: http://www.altera.com/literature/ds/dspkg.pdf
footprint TQFP44_N (Thin QFP, 44-Leads, Body 10x10mm, Pitch 0.8mm, IPC Medium Density)
footprint TQFP44_L (Thin QFP, 44-Leads, Body 10x10mm, Pitch 0.8mm, IPC High Density)
footprint TQFP44_M (Thin QFP, 44-Leads, Body 10x10mm, Pitch 0.8mm, IPC Low Density)
3D model EPM7064-TQFP44 (44-Pin Plastic Thin Quad Flat Pack (TFQP44))
signal-integrity model 7k (MAX 7000S)
part A pins: 2 IO (io), 3 IO (io), 5 IO (io), 6 IO (io), 42 IO (io), 43 IO (io), 44 IO (io)
part B pins: 8 IO (io), 10 IO (io), 11 IO (io), 12 IO (io), 13 IO (io), 14 IO (io), 15 IO (io)
part C pins: 18 IO (io), 19 IO (io), 20 IO (io), 21 IO (io), 22 IO (io), 23 IO (io), 25 IO (io)
part D pins: 27 IO (io), 28 IO (io), 30 IO (io), 31 IO (io), 33 IO (io), 34 IO (io), 35 IO (io)
part E pins: 37 INPUT/GCLK (in), 38 INPUT/OE1 (in), 39 INPUT/GCLRn (in), 40 INPUT/OE2/GCLK2 (in)
part F pins: 1 TDI/IO (io), 7 TMS/IO (io), 26 TCK/IO (io), 32 TDO/IO (io)
part G pins: 9 VCCINT (5.0 V ONLY) (power), 17 VCCINT (5.0 V ONLY) (power), 29 VCCINT (5.0 V ONLY) (power), 41 VCCINT (5.0 V ONLY) (power)
part H pins: 4 GND (power), 16 GND (power), 24 GND (power), 36 GND (power)
part A text: BANK A
part B text: BANK B
part C text: BANK C
part D text: BANK D

## EPM7064TC44-7
designator U?
MAX 7000 5V CPLD, 64 Macrocells, 44-Pin TQFP, Speed Grade 7, Commercial Grade; Published: 24-Nov-2000; LatestRevisionDate: 13-Apr-2006; LatestRevisionNote: IPC-7351 Footprint Added.; DatasheetVersion: ver6.7, Sep-2005; PackageVersion: ver14.3, Jul-2006; PackageReference: TQFP44; Publisher: Altium Limited; PackageDescription: 44-Pin Plastic Thin Quad Flat Pack (TFQP44); Code_JEDEC: MS-026-ACB; ComponentLink1Description: Manufacturer Link; ComponentLink1URL: http://www.altera.com/products/devices/max7k/m7k-index.html; ComponentLink2Description: Datasheet; ComponentLink2URL: http://www.altera.com/literature/ds/m7000.pdf; ComponentLink3Description: Packaging Specification; ComponentLink3URL: http://www.altera.com/literature/ds/dspkg.pdf
footprint TQFP44_N (Thin QFP, 44-Leads, Body 10x10mm, Pitch 0.8mm, IPC Medium Density)
footprint TQFP44_L (Thin QFP, 44-Leads, Body 10x10mm, Pitch 0.8mm, IPC High Density)
footprint TQFP44_M (Thin QFP, 44-Leads, Body 10x10mm, Pitch 0.8mm, IPC Low Density)
3D model EPM7064-TQFP44 (44-Pin Plastic Thin Quad Flat Pack (TFQP44))
signal-integrity model 7k (MAX 7000S)
part A pins: 2 IO (io), 3 IO (io), 5 IO (io), 6 IO (io), 42 IO (io), 43 IO (io), 44 IO (io)
part B pins: 8 IO (io), 10 IO (io), 11 IO (io), 12 IO (io), 13 IO (io), 14 IO (io), 15 IO (io)
part C pins: 18 IO (io), 19 IO (io), 20 IO (io), 21 IO (io), 22 IO (io), 23 IO (io), 25 IO (io)
part D pins: 27 IO (io), 28 IO (io), 30 IO (io), 31 IO (io), 33 IO (io), 34 IO (io), 35 IO (io)
part E pins: 37 INPUT/GCLK (in), 38 INPUT/OE1 (in), 39 INPUT/GCLRn (in), 40 INPUT/OE2/GCLK2 (in)
part F pins: 1 TDI/IO (io), 7 TMS/IO (io), 26 TCK/IO (io), 32 TDO/IO (io)
part G pins: 9 VCCINT (5.0 V ONLY) (power), 17 VCCINT (5.0 V ONLY) (power), 29 VCCINT (5.0 V ONLY) (power), 41 VCCINT (5.0 V ONLY) (power)
part H pins: 4 GND (power), 16 GND (power), 24 GND (power), 36 GND (power)
part A text: BANK A
part B text: BANK B
part C text: BANK C
part D text: BANK D

## EPM7064TC44-10
designator U?
MAX 7000 5V CPLD, 64 Macrocells, 44-Pin TQFP, Speed Grade 10, Commercial Grade; Published: 24-Nov-2000; LatestRevisionDate: 13-Apr-2006; LatestRevisionNote: IPC-7351 Footprint Added.; DatasheetVersion: ver6.7, Sep-2005; PackageVersion: ver14.3, Jul-2006; PackageReference: TQFP44; Publisher: Altium Limited; PackageDescription: 44-Pin Plastic Thin Quad Flat Pack (TFQP44); Code_JEDEC: MS-026-ACB; ComponentLink1Description: Manufacturer Link; ComponentLink1URL: http://www.altera.com/products/devices/max7k/m7k-index.html; ComponentLink2Description: Datasheet; ComponentLink2URL: http://www.altera.com/literature/ds/m7000.pdf; ComponentLink3Description: Packaging Specification; ComponentLink3URL: http://www.altera.com/literature/ds/dspkg.pdf
footprint TQFP44_N (Thin QFP, 44-Leads, Body 10x10mm, Pitch 0.8mm, IPC Medium Density)
footprint TQFP44_L (Thin QFP, 44-Leads, Body 10x10mm, Pitch 0.8mm, IPC High Density)
footprint TQFP44_M (Thin QFP, 44-Leads, Body 10x10mm, Pitch 0.8mm, IPC Low Density)
3D model EPM7064-TQFP44 (44-Pin Plastic Thin Quad Flat Pack (TFQP44))
signal-integrity model 7k (MAX 7000S)
part A pins: 2 IO (io), 3 IO (io), 5 IO (io), 6 IO (io), 42 IO (io), 43 IO (io), 44 IO (io)
part B pins: 8 IO (io), 10 IO (io), 11 IO (io), 12 IO (io), 13 IO (io), 14 IO (io), 15 IO (io)
part C pins: 18 IO (io), 19 IO (io), 20 IO (io), 21 IO (io), 22 IO (io), 23 IO (io), 25 IO (io)
part D pins: 27 IO (io), 28 IO (io), 30 IO (io), 31 IO (io), 33 IO (io), 34 IO (io), 35 IO (io)
part E pins: 37 INPUT/GCLK (in), 38 INPUT/OE1 (in), 39 INPUT/GCLRn (in), 40 INPUT/OE2/GCLK2 (in)
part F pins: 1 TDI/IO (io), 7 TMS/IO (io), 26 TCK/IO (io), 32 TDO/IO (io)
part G pins: 9 VCCINT (5.0 V ONLY) (power), 17 VCCINT (5.0 V ONLY) (power), 29 VCCINT (5.0 V ONLY) (power), 41 VCCINT (5.0 V ONLY) (power)
part H pins: 4 GND (power), 16 GND (power), 24 GND (power), 36 GND (power)
part A text: BANK A
part B text: BANK B
part C text: BANK C
part D text: BANK D

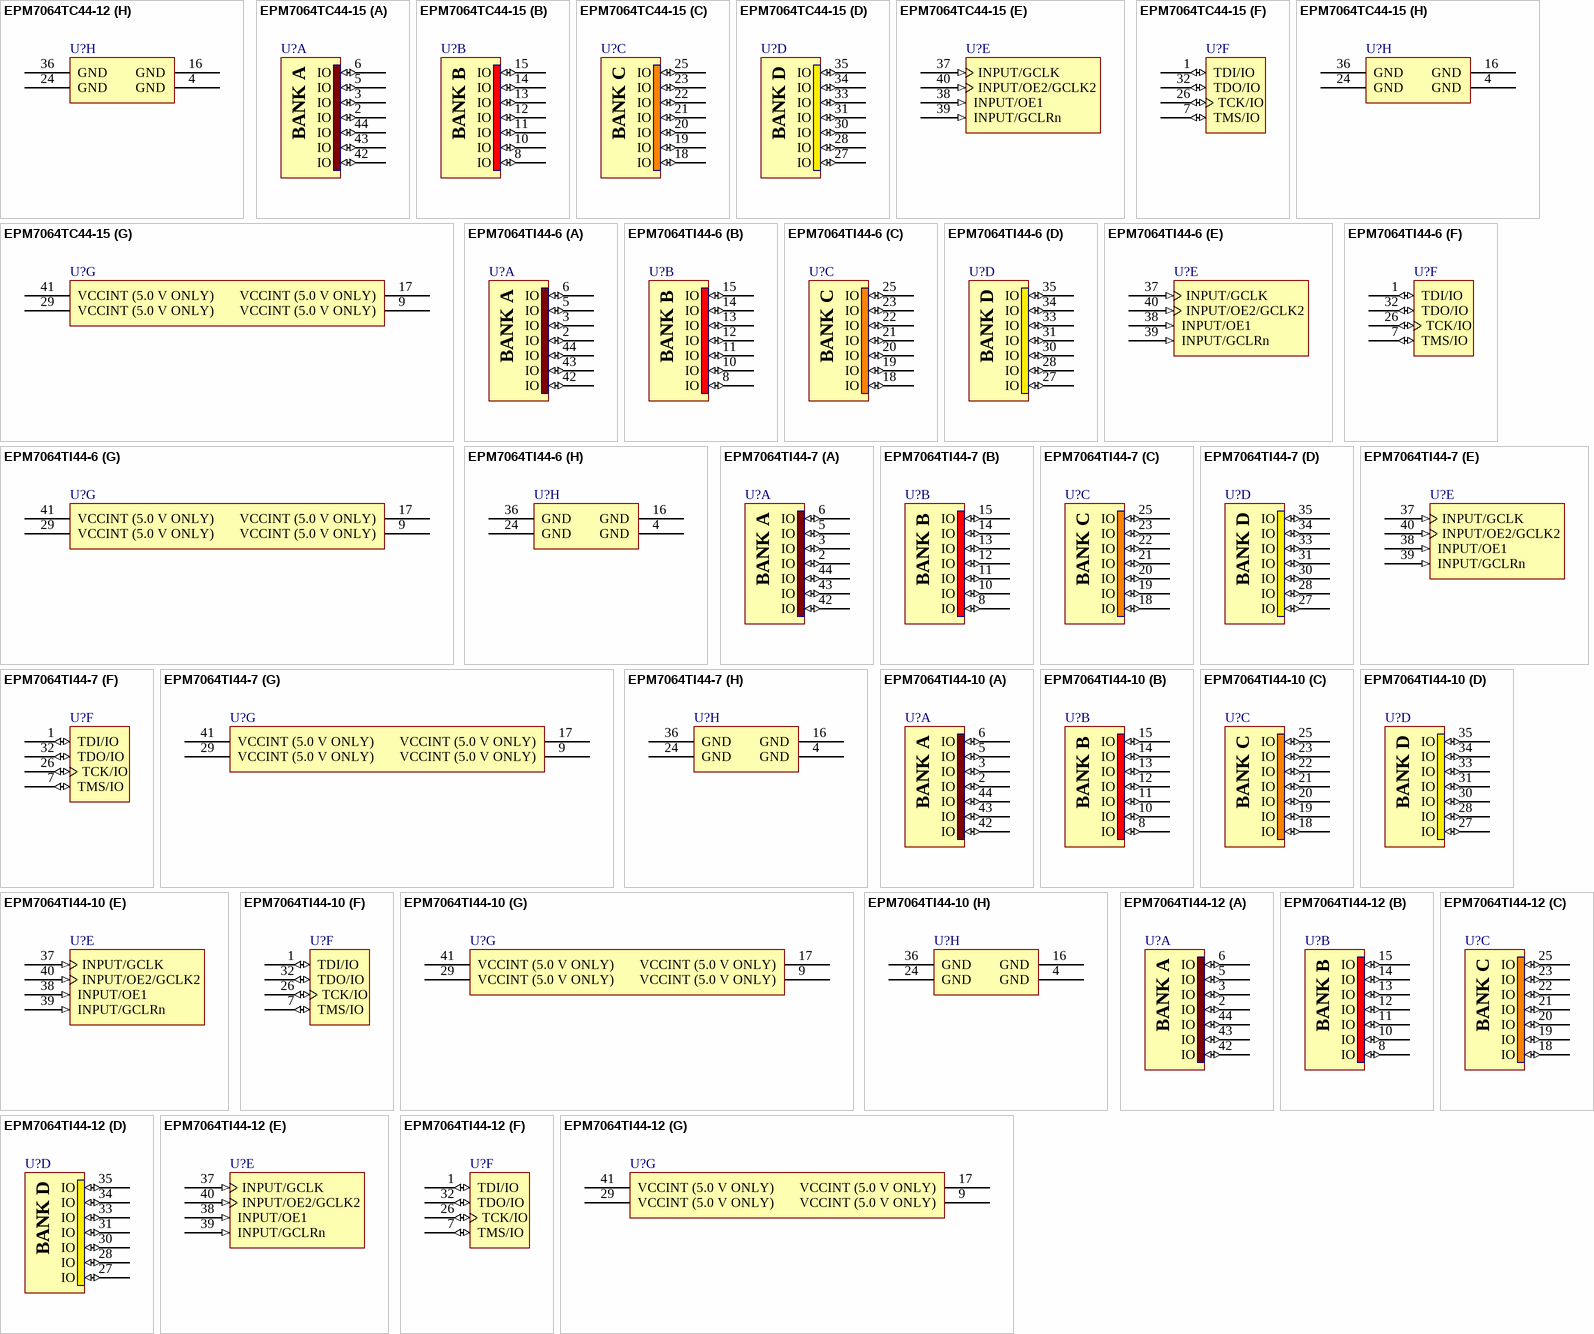
[diagram p27: symbols EPM7064TC44-12 to EPM7064TI44-12]

## EPM7064TC44-12
designator U?
MAX 7000 5V CPLD, 64 Macrocells, 44-Pin TQFP, Speed Grade 12, Commercial Grade; Published: 24-Nov-2000; LatestRevisionDate: 13-Apr-2006; LatestRevisionNote: IPC-7351 Footprint Added.; DatasheetVersion: ver6.7, Sep-2005; PackageVersion: ver14.3, Jul-2006; PackageReference: TQFP44; Publisher: Altium Limited; PackageDescription: 44-Pin Plastic Thin Quad Flat Pack (TFQP44); Code_JEDEC: MS-026-ACB; ComponentLink1Description: Manufacturer Link; ComponentLink1URL: http://www.altera.com/products/devices/max7k/m7k-index.html; ComponentLink2Description: Datasheet; ComponentLink2URL: http://www.altera.com/literature/ds/m7000.pdf; ComponentLink3Description: Packaging Specification; ComponentLink3URL: http://www.altera.com/literature/ds/dspkg.pdf
footprint TQFP44_N (Thin QFP, 44-Leads, Body 10x10mm, Pitch 0.8mm, IPC Medium Density)
footprint TQFP44_L (Thin QFP, 44-Leads, Body 10x10mm, Pitch 0.8mm, IPC High Density)
footprint TQFP44_M (Thin QFP, 44-Leads, Body 10x10mm, Pitch 0.8mm, IPC Low Density)
3D model EPM7064-TQFP44 (44-Pin Plastic Thin Quad Flat Pack (TFQP44))
signal-integrity model 7k (MAX 7000S)
part A pins: 2 IO (io), 3 IO (io), 5 IO (io), 6 IO (io), 42 IO (io), 43 IO (io), 44 IO (io)
part B pins: 8 IO (io), 10 IO (io), 11 IO (io), 12 IO (io), 13 IO (io), 14 IO (io), 15 IO (io)
part C pins: 18 IO (io), 19 IO (io), 20 IO (io), 21 IO (io), 22 IO (io), 23 IO (io), 25 IO (io)
part D pins: 27 IO (io), 28 IO (io), 30 IO (io), 31 IO (io), 33 IO (io), 34 IO (io), 35 IO (io)
part E pins: 37 INPUT/GCLK (in), 38 INPUT/OE1 (in), 39 INPUT/GCLRn (in), 40 INPUT/OE2/GCLK2 (in)
part F pins: 1 TDI/IO (io), 7 TMS/IO (io), 26 TCK/IO (io), 32 TDO/IO (io)
part G pins: 9 VCCINT (5.0 V ONLY) (power), 17 VCCINT (5.0 V ONLY) (power), 29 VCCINT (5.0 V ONLY) (power), 41 VCCINT (5.0 V ONLY) (power)
part H pins: 4 GND (power), 16 GND (power), 24 GND (power), 36 GND (power)
part A text: BANK A
part B text: BANK B
part C text: BANK C
part D text: BANK D

## EPM7064TC44-15
designator U?
MAX 7000 5V CPLD, 64 Macrocells, 44-Pin TQFP, Speed Grade 15, Commercial Grade; Published: 24-Nov-2000; LatestRevisionDate: 13-Apr-2006; LatestRevisionNote: IPC-7351 Footprint Added.; DatasheetVersion: ver6.7, Sep-2005; PackageVersion: ver14.3, Jul-2006; PackageReference: TQFP44; Publisher: Altium Limited; PackageDescription: 44-Pin Plastic Thin Quad Flat Pack (TFQP44); Code_JEDEC: MS-026-ACB; ComponentLink1Description: Manufacturer Link; ComponentLink1URL: http://www.altera.com/products/devices/max7k/m7k-index.html; ComponentLink2Description: Datasheet; ComponentLink2URL: http://www.altera.com/literature/ds/m7000.pdf; ComponentLink3Description: Packaging Specification; ComponentLink3URL: http://www.altera.com/literature/ds/dspkg.pdf
footprint TQFP44_N (Thin QFP, 44-Leads, Body 10x10mm, Pitch 0.8mm, IPC Medium Density)
footprint TQFP44_L (Thin QFP, 44-Leads, Body 10x10mm, Pitch 0.8mm, IPC High Density)
footprint TQFP44_M (Thin QFP, 44-Leads, Body 10x10mm, Pitch 0.8mm, IPC Low Density)
3D model EPM7064-TQFP44 (44-Pin Plastic Thin Quad Flat Pack (TFQP44))
signal-integrity model 7k (MAX 7000S)
part A pins: 2 IO (io), 3 IO (io), 5 IO (io), 6 IO (io), 42 IO (io), 43 IO (io), 44 IO (io)
part B pins: 8 IO (io), 10 IO (io), 11 IO (io), 12 IO (io), 13 IO (io), 14 IO (io), 15 IO (io)
part C pins: 18 IO (io), 19 IO (io), 20 IO (io), 21 IO (io), 22 IO (io), 23 IO (io), 25 IO (io)
part D pins: 27 IO (io), 28 IO (io), 30 IO (io), 31 IO (io), 33 IO (io), 34 IO (io), 35 IO (io)
part E pins: 37 INPUT/GCLK (in), 38 INPUT/OE1 (in), 39 INPUT/GCLRn (in), 40 INPUT/OE2/GCLK2 (in)
part F pins: 1 TDI/IO (io), 7 TMS/IO (io), 26 TCK/IO (io), 32 TDO/IO (io)
part G pins: 9 VCCINT (5.0 V ONLY) (power), 17 VCCINT (5.0 V ONLY) (power), 29 VCCINT (5.0 V ONLY) (power), 41 VCCINT (5.0 V ONLY) (power)
part H pins: 4 GND (power), 16 GND (power), 24 GND (power), 36 GND (power)
part A text: BANK A
part B text: BANK B
part C text: BANK C
part D text: BANK D

## EPM7064TI44-6
designator U?
MAX 7000 5V CPLD, 64 Macrocells, 44-Pin TQFP, Speed Grade 6, Industrial Grade; Published: 17-Sep-2003; LatestRevisionDate: 13-Apr-2006; LatestRevisionNote: IPC-7351 Footprint Added.; DatasheetVersion: ver6.7, Sep-2005; PackageVersion: ver14.3, Jul-2006; PackageReference: TQFP44; Publisher: Altium Limited; PackageDescription: 44-Pin Plastic Thin Quad Flat Pack (TFQP44); Code_JEDEC: MS-026-ACB; ComponentLink1Description: Manufacturer Link; ComponentLink1URL: http://www.altera.com/products/devices/max7k/m7k-index.html; ComponentLink2Description: Datasheet; ComponentLink2URL: http://www.altera.com/literature/ds/m7000.pdf; ComponentLink3Description: Packaging Specification; ComponentLink3URL: http://www.altera.com/literature/ds/dspkg.pdf
footprint TQFP44_N (Thin QFP, 44-Leads, Body 10x10mm, Pitch 0.8mm, IPC Medium Density)
footprint TQFP44_L (Thin QFP, 44-Leads, Body 10x10mm, Pitch 0.8mm, IPC High Density)
footprint TQFP44_M (Thin QFP, 44-Leads, Body 10x10mm, Pitch 0.8mm, IPC Low Density)
3D model EPM7064-TQFP44 (44-Pin Plastic Thin Quad Flat Pack (TFQP44))
signal-integrity model 7k (MAX 7000S)
part A pins: 2 IO (io), 3 IO (io), 5 IO (io), 6 IO (io), 42 IO (io), 43 IO (io), 44 IO (io)
part B pins: 8 IO (io), 10 IO (io), 11 IO (io), 12 IO (io), 13 IO (io), 14 IO (io), 15 IO (io)
part C pins: 18 IO (io), 19 IO (io), 20 IO (io), 21 IO (io), 22 IO (io), 23 IO (io), 25 IO (io)
part D pins: 27 IO (io), 28 IO (io), 30 IO (io), 31 IO (io), 33 IO (io), 34 IO (io), 35 IO (io)
part E pins: 37 INPUT/GCLK (in), 38 INPUT/OE1 (in), 39 INPUT/GCLRn (in), 40 INPUT/OE2/GCLK2 (in)
part F pins: 1 TDI/IO (io), 7 TMS/IO (io), 26 TCK/IO (io), 32 TDO/IO (io)
part G pins: 9 VCCINT (5.0 V ONLY) (power), 17 VCCINT (5.0 V ONLY) (power), 29 VCCINT (5.0 V ONLY) (power), 41 VCCINT (5.0 V ONLY) (power)
part H pins: 4 GND (power), 16 GND (power), 24 GND (power), 36 GND (power)
part A text: BANK A
part B text: BANK B
part C text: BANK C
part D text: BANK D

## EPM7064TI44-7
designator U?
MAX 7000 5V CPLD, 64 Macrocells, 44-Pin TQFP, Speed Grade 7, Industrial Grade; Published: 17-Sep-2003; LatestRevisionDate: 13-Apr-2006; LatestRevisionNote: IPC-7351 Footprint Added.; DatasheetVersion: ver6.7, Sep-2005; PackageVersion: ver14.3, Jul-2006; PackageReference: TQFP44; Publisher: Altium Limited; PackageDescription: 44-Pin Plastic Thin Quad Flat Pack (TFQP44); Code_JEDEC: MS-026-ACB; ComponentLink1Description: Manufacturer Link; ComponentLink1URL: http://www.altera.com/products/devices/max7k/m7k-index.html; ComponentLink2Description: Datasheet; ComponentLink2URL: http://www.altera.com/literature/ds/m7000.pdf; ComponentLink3Description: Packaging Specification; ComponentLink3URL: http://www.altera.com/literature/ds/dspkg.pdf
footprint TQFP44_N (Thin QFP, 44-Leads, Body 10x10mm, Pitch 0.8mm, IPC Medium Density)
footprint TQFP44_L (Thin QFP, 44-Leads, Body 10x10mm, Pitch 0.8mm, IPC High Density)
footprint TQFP44_M (Thin QFP, 44-Leads, Body 10x10mm, Pitch 0.8mm, IPC Low Density)
3D model EPM7064-TQFP44 (44-Pin Plastic Thin Quad Flat Pack (TFQP44))
signal-integrity model 7k (MAX 7000S)
part A pins: 2 IO (io), 3 IO (io), 5 IO (io), 6 IO (io), 42 IO (io), 43 IO (io), 44 IO (io)
part B pins: 8 IO (io), 10 IO (io), 11 IO (io), 12 IO (io), 13 IO (io), 14 IO (io), 15 IO (io)
part C pins: 18 IO (io), 19 IO (io), 20 IO (io), 21 IO (io), 22 IO (io), 23 IO (io), 25 IO (io)
part D pins: 27 IO (io), 28 IO (io), 30 IO (io), 31 IO (io), 33 IO (io), 34 IO (io), 35 IO (io)
part E pins: 37 INPUT/GCLK (in), 38 INPUT/OE1 (in), 39 INPUT/GCLRn (in), 40 INPUT/OE2/GCLK2 (in)
part F pins: 1 TDI/IO (io), 7 TMS/IO (io), 26 TCK/IO (io), 32 TDO/IO (io)
part G pins: 9 VCCINT (5.0 V ONLY) (power), 17 VCCINT (5.0 V ONLY) (power), 29 VCCINT (5.0 V ONLY) (power), 41 VCCINT (5.0 V ONLY) (power)
part H pins: 4 GND (power), 16 GND (power), 24 GND (power), 36 GND (power)
part A text: BANK A
part B text: BANK B
part C text: BANK C
part D text: BANK D

## EPM7064TI44-10
designator U?
MAX 7000 5V CPLD, 64 Macrocells, 44-Pin TQFP, Speed Grade 10, Industrial Grade; Published: 24-Nov-2000; LatestRevisionDate: 13-Apr-2006; LatestRevisionNote: IPC-7351 Footprint Added.; DatasheetVersion: ver6.7, Sep-2005; PackageVersion: ver14.3, Jul-2006; PackageReference: TQFP44; Publisher: Altium Limited; PackageDescription: 44-Pin Plastic Thin Quad Flat Pack (TFQP44); Code_JEDEC: MS-026-ACB; ComponentLink1Description: Manufacturer Link; ComponentLink1URL: http://www.altera.com/products/devices/max7k/m7k-index.html; ComponentLink2Description: Datasheet; ComponentLink2URL: http://www.altera.com/literature/ds/m7000.pdf; ComponentLink3Description: Packaging Specification; ComponentLink3URL: http://www.altera.com/literature/ds/dspkg.pdf
footprint TQFP44_N (Thin QFP, 44-Leads, Body 10x10mm, Pitch 0.8mm, IPC Medium Density)
footprint TQFP44_L (Thin QFP, 44-Leads, Body 10x10mm, Pitch 0.8mm, IPC High Density)
footprint TQFP44_M (Thin QFP, 44-Leads, Body 10x10mm, Pitch 0.8mm, IPC Low Density)
3D model EPM7064-TQFP44 (44-Pin Plastic Thin Quad Flat Pack (TFQP44))
signal-integrity model 7k (MAX 7000S)
part A pins: 2 IO (io), 3 IO (io), 5 IO (io), 6 IO (io), 42 IO (io), 43 IO (io), 44 IO (io)
part B pins: 8 IO (io), 10 IO (io), 11 IO (io), 12 IO (io), 13 IO (io), 14 IO (io), 15 IO (io)
part C pins: 18 IO (io), 19 IO (io), 20 IO (io), 21 IO (io), 22 IO (io), 23 IO (io), 25 IO (io)
part D pins: 27 IO (io), 28 IO (io), 30 IO (io), 31 IO (io), 33 IO (io), 34 IO (io), 35 IO (io)
part E pins: 37 INPUT/GCLK (in), 38 INPUT/OE1 (in), 39 INPUT/GCLRn (in), 40 INPUT/OE2/GCLK2 (in)
part F pins: 1 TDI/IO (io), 7 TMS/IO (io), 26 TCK/IO (io), 32 TDO/IO (io)
part G pins: 9 VCCINT (5.0 V ONLY) (power), 17 VCCINT (5.0 V ONLY) (power), 29 VCCINT (5.0 V ONLY) (power), 41 VCCINT (5.0 V ONLY) (power)
part H pins: 4 GND (power), 16 GND (power), 24 GND (power), 36 GND (power)
part A text: BANK A
part B text: BANK B
part C text: BANK C
part D text: BANK D

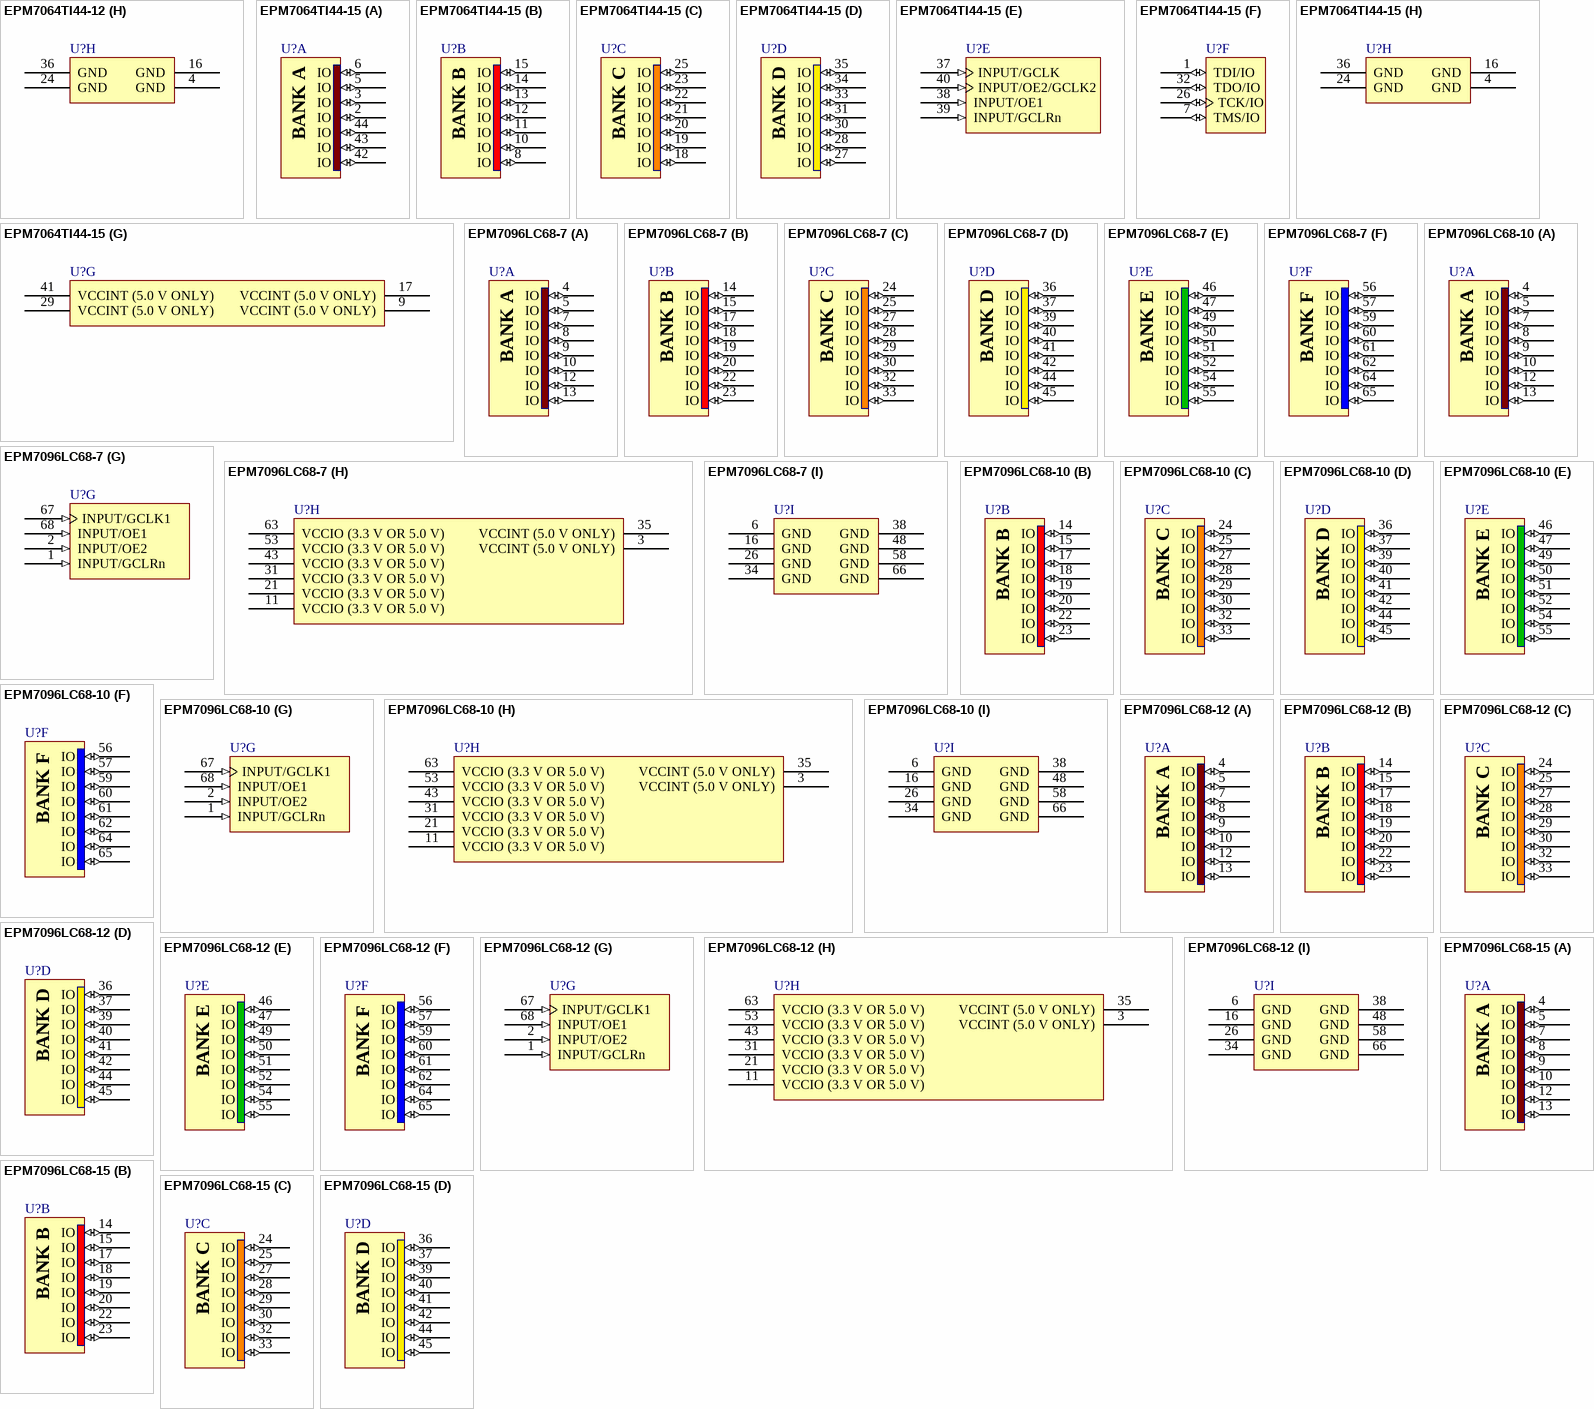
[diagram p28: symbols EPM7064TI44-12 to EPM7096LC68-15]

## EPM7064TI44-12
designator U?
MAX 7000 5V CPLD, 64 Macrocells, 44-Pin TQFP, Speed Grade 12, Industrial Grade; Published: 17-Sep-2003; LatestRevisionDate: 13-Apr-2006; LatestRevisionNote: IPC-7351 Footprint Added.; DatasheetVersion: ver6.7, Sep-2005; PackageVersion: ver14.3, Jul-2006; PackageReference: TQFP44; Publisher: Altium Limited; PackageDescription: 44-Pin Plastic Thin Quad Flat Pack (TFQP44); Code_JEDEC: MS-026-ACB; ComponentLink1Description: Manufacturer Link; ComponentLink1URL: http://www.altera.com/products/devices/max7k/m7k-index.html; ComponentLink2Description: Datasheet; ComponentLink2URL: http://www.altera.com/literature/ds/m7000.pdf; ComponentLink3Description: Packaging Specification; ComponentLink3URL: http://www.altera.com/literature/ds/dspkg.pdf
footprint TQFP44_N (Thin QFP, 44-Leads, Body 10x10mm, Pitch 0.8mm, IPC Medium Density)
footprint TQFP44_L (Thin QFP, 44-Leads, Body 10x10mm, Pitch 0.8mm, IPC High Density)
footprint TQFP44_M (Thin QFP, 44-Leads, Body 10x10mm, Pitch 0.8mm, IPC Low Density)
3D model EPM7064-TQFP44 (44-Pin Plastic Thin Quad Flat Pack (TFQP44))
signal-integrity model 7k (MAX 7000S)
part A pins: 2 IO (io), 3 IO (io), 5 IO (io), 6 IO (io), 42 IO (io), 43 IO (io), 44 IO (io)
part B pins: 8 IO (io), 10 IO (io), 11 IO (io), 12 IO (io), 13 IO (io), 14 IO (io), 15 IO (io)
part C pins: 18 IO (io), 19 IO (io), 20 IO (io), 21 IO (io), 22 IO (io), 23 IO (io), 25 IO (io)
part D pins: 27 IO (io), 28 IO (io), 30 IO (io), 31 IO (io), 33 IO (io), 34 IO (io), 35 IO (io)
part E pins: 37 INPUT/GCLK (in), 38 INPUT/OE1 (in), 39 INPUT/GCLRn (in), 40 INPUT/OE2/GCLK2 (in)
part F pins: 1 TDI/IO (io), 7 TMS/IO (io), 26 TCK/IO (io), 32 TDO/IO (io)
part G pins: 9 VCCINT (5.0 V ONLY) (power), 17 VCCINT (5.0 V ONLY) (power), 29 VCCINT (5.0 V ONLY) (power), 41 VCCINT (5.0 V ONLY) (power)
part H pins: 4 GND (power), 16 GND (power), 24 GND (power), 36 GND (power)
part A text: BANK A
part B text: BANK B
part C text: BANK C
part D text: BANK D

## EPM7064TI44-15
designator U?
MAX 7000 5V CPLD, 64 Macrocells, 44-Pin TQFP, Speed Grade 15, Industrial Grade; Published: 24-Nov-2000; LatestRevisionDate: 13-Apr-2006; LatestRevisionNote: IPC-7351 Footprint Added.; DatasheetVersion: ver6.7, Sep-2005; PackageVersion: ver14.3, Jul-2006; PackageReference: TQFP44; Publisher: Altium Limited; PackageDescription: 44-Pin Plastic Thin Quad Flat Pack (TFQP44); Code_JEDEC: MS-026-ACB; ComponentLink1Description: Manufacturer Link; ComponentLink1URL: http://www.altera.com/products/devices/max7k/m7k-index.html; ComponentLink2Description: Datasheet; ComponentLink2URL: http://www.altera.com/literature/ds/m7000.pdf; ComponentLink3Description: Packaging Specification; ComponentLink3URL: http://www.altera.com/literature/ds/dspkg.pdf
footprint TQFP44_N (Thin QFP, 44-Leads, Body 10x10mm, Pitch 0.8mm, IPC Medium Density)
footprint TQFP44_L (Thin QFP, 44-Leads, Body 10x10mm, Pitch 0.8mm, IPC High Density)
footprint TQFP44_M (Thin QFP, 44-Leads, Body 10x10mm, Pitch 0.8mm, IPC Low Density)
3D model EPM7064-TQFP44 (44-Pin Plastic Thin Quad Flat Pack (TFQP44))
signal-integrity model 7k (MAX 7000S)
part A pins: 2 IO (io), 3 IO (io), 5 IO (io), 6 IO (io), 42 IO (io), 43 IO (io), 44 IO (io)
part B pins: 8 IO (io), 10 IO (io), 11 IO (io), 12 IO (io), 13 IO (io), 14 IO (io), 15 IO (io)
part C pins: 18 IO (io), 19 IO (io), 20 IO (io), 21 IO (io), 22 IO (io), 23 IO (io), 25 IO (io)
part D pins: 27 IO (io), 28 IO (io), 30 IO (io), 31 IO (io), 33 IO (io), 34 IO (io), 35 IO (io)
part E pins: 37 INPUT/GCLK (in), 38 INPUT/OE1 (in), 39 INPUT/GCLRn (in), 40 INPUT/OE2/GCLK2 (in)
part F pins: 1 TDI/IO (io), 7 TMS/IO (io), 26 TCK/IO (io), 32 TDO/IO (io)
part G pins: 9 VCCINT (5.0 V ONLY) (power), 17 VCCINT (5.0 V ONLY) (power), 29 VCCINT (5.0 V ONLY) (power), 41 VCCINT (5.0 V ONLY) (power)
part H pins: 4 GND (power), 16 GND (power), 24 GND (power), 36 GND (power)
part A text: BANK A
part B text: BANK B
part C text: BANK C
part D text: BANK D

## EPM7096LC68-7
designator U?
MAX 7000 5V CPLD, 96 Macrocells, 68-Pin PLCC, Speed Grade 7, Commercial Grade; Published: 24-Nov-2000; LatestRevisionDate: 13-Apr-2006; LatestRevisionNote: IPC-7351 Footprint Added.; DatasheetVersion: ver6.7, Sep-2005; PackageVersion: ver14.2, Oct-2005; PackageReference: PLCC68; Publisher: Altium Limited; PackageDescription: 68-Pin Plastic J-Lead Chip Carrier (PLCC68); Code_JEDEC: MS-018-AE; Code_IPC: PLCC-68; ComponentLink1Description: Manufacturer Link; ComponentLink1URL: http://www.altera.com/products/devices/max7k/m7k-index.html; ComponentLink2Description: Datasheet; ComponentLink2URL: http://www.altera.com/literature/ds/m7000.pdf; ComponentLink3Description: Packaging Specification; ComponentLink3URL: http://www.altera.com/literature/ds/dspkg.pdf
footprint PLCC68_N (Leaded Chip Carrier, 68-Leads, Body 24x24mm, Pitch 1.27mm, IPC Medium Density)
footprint PLCC68_L (Leaded Chip Carrier, 68-Leads, Body 24x24mm, Pitch 1.27mm, IPC High Density)
footprint PLCC68_M (Leaded Chip Carrier, 68-Leads, Body 24x24mm, Pitch 1.27mm, IPC Low Density)
3D model EPM7096-PLCC68 (68-Pin Plastic J-Lead Chip Carrier (PLCC68))
signal-integrity model 7k (MAX 7000S)
part A pins: 4 IO (io), 5 IO (io), 7 IO (io), 8 IO (io), 9 IO (io), 10 IO (io), 12 IO (io), 13 IO (io)
part B pins: 14 IO (io), 15 IO (io), 17 IO (io), 18 IO (io), 19 IO (io), 20 IO (io), 22 IO (io), 23 IO (io)
part C pins: 24 IO (io), 25 IO (io), 27 IO (io), 28 IO (io), 29 IO (io), 30 IO (io), 32 IO (io), 33 IO (io)
part D pins: 36 IO (io), 37 IO (io), 39 IO (io), 40 IO (io), 41 IO (io), 42 IO (io), 44 IO (io), 45 IO (io)
part E pins: 46 IO (io), 47 IO (io), 49 IO (io), 50 IO (io), 51 IO (io), 52 IO (io), 54 IO (io), 55 IO (io)
part F pins: 56 IO (io), 57 IO (io), 59 IO (io), 60 IO (io), 61 IO (io), 62 IO (io), 64 IO (io), 65 IO (io)
part G pins: 1 INPUT/GCLRn (in), 2 INPUT/OE2 (in), 67 INPUT/GCLK1 (in), 68 INPUT/OE1 (in)
part H pins: 3 VCCINT (5.0 V ONLY) (power), 11 VCCIO (3.3 V OR 5.0 V) (power), 21 VCCIO (3.3 V OR 5.0 V) (power), 31 VCCIO (3.3 V OR 5.0 V) (power), 35 VCCINT (5.0 V ONLY) (power), 43 VCCIO (3.3 V OR 5.0 V) (power), 53 VCCIO (3.3 V OR 5.0 V) (power), 63 VCCIO (3.3 V OR 5.0 V) (power)
part I pins: 6 GND (power), 16 GND (power), 26 GND (power), 34 GND (power), 38 GND (power), 48 GND (power), 58 GND (power), 66 GND (power)
part A text: BANK A
part B text: BANK B
part C text: BANK C
part D text: BANK D
part E text: BANK E
part F text: BANK F

## EPM7096LC68-10
designator U?
MAX 7000 5V CPLD, 96 Macrocells, 68-Pin PLCC, Speed Grade 10, Commercial Grade; Published: 24-Nov-2000; LatestRevisionDate: 13-Apr-2006; LatestRevisionNote: IPC-7351 Footprint Added.; DatasheetVersion: ver6.7, Sep-2005; PackageVersion: ver14.2, Oct-2005; PackageReference: PLCC68; Publisher: Altium Limited; PackageDescription: 68-Pin Plastic J-Lead Chip Carrier (PLCC68); Code_JEDEC: MS-018-AE; Code_IPC: PLCC-68; ComponentLink1Description: Manufacturer Link; ComponentLink1URL: http://www.altera.com/products/devices/max7k/m7k-index.html; ComponentLink2Description: Datasheet; ComponentLink2URL: http://www.altera.com/literature/ds/m7000.pdf; ComponentLink3Description: Packaging Specification; ComponentLink3URL: http://www.altera.com/literature/ds/dspkg.pdf
footprint PLCC68_N (Leaded Chip Carrier, 68-Leads, Body 24x24mm, Pitch 1.27mm, IPC Medium Density)
footprint PLCC68_L (Leaded Chip Carrier, 68-Leads, Body 24x24mm, Pitch 1.27mm, IPC High Density)
footprint PLCC68_M (Leaded Chip Carrier, 68-Leads, Body 24x24mm, Pitch 1.27mm, IPC Low Density)
3D model EPM7096-PLCC68 (68-Pin Plastic J-Lead Chip Carrier (PLCC68))
signal-integrity model 7k (MAX 7000S)
part A pins: 4 IO (io), 5 IO (io), 7 IO (io), 8 IO (io), 9 IO (io), 10 IO (io), 12 IO (io), 13 IO (io)
part B pins: 14 IO (io), 15 IO (io), 17 IO (io), 18 IO (io), 19 IO (io), 20 IO (io), 22 IO (io), 23 IO (io)
part C pins: 24 IO (io), 25 IO (io), 27 IO (io), 28 IO (io), 29 IO (io), 30 IO (io), 32 IO (io), 33 IO (io)
part D pins: 36 IO (io), 37 IO (io), 39 IO (io), 40 IO (io), 41 IO (io), 42 IO (io), 44 IO (io), 45 IO (io)
part E pins: 46 IO (io), 47 IO (io), 49 IO (io), 50 IO (io), 51 IO (io), 52 IO (io), 54 IO (io), 55 IO (io)
part F pins: 56 IO (io), 57 IO (io), 59 IO (io), 60 IO (io), 61 IO (io), 62 IO (io), 64 IO (io), 65 IO (io)
part G pins: 1 INPUT/GCLRn (in), 2 INPUT/OE2 (in), 67 INPUT/GCLK1 (in), 68 INPUT/OE1 (in)
part H pins: 3 VCCINT (5.0 V ONLY) (power), 11 VCCIO (3.3 V OR 5.0 V) (power), 21 VCCIO (3.3 V OR 5.0 V) (power), 31 VCCIO (3.3 V OR 5.0 V) (power), 35 VCCINT (5.0 V ONLY) (power), 43 VCCIO (3.3 V OR 5.0 V) (power), 53 VCCIO (3.3 V OR 5.0 V) (power), 63 VCCIO (3.3 V OR 5.0 V) (power)
part I pins: 6 GND (power), 16 GND (power), 26 GND (power), 34 GND (power), 38 GND (power), 48 GND (power), 58 GND (power), 66 GND (power)
part A text: BANK A
part B text: BANK B
part C text: BANK C
part D text: BANK D
part E text: BANK E
part F text: BANK F